# Altium schematic symbol library libreriaSch.SchLib: 392 symbols (part 1 of 2)
Pins are listed as number, name and electrical type; pins without a type are passive.

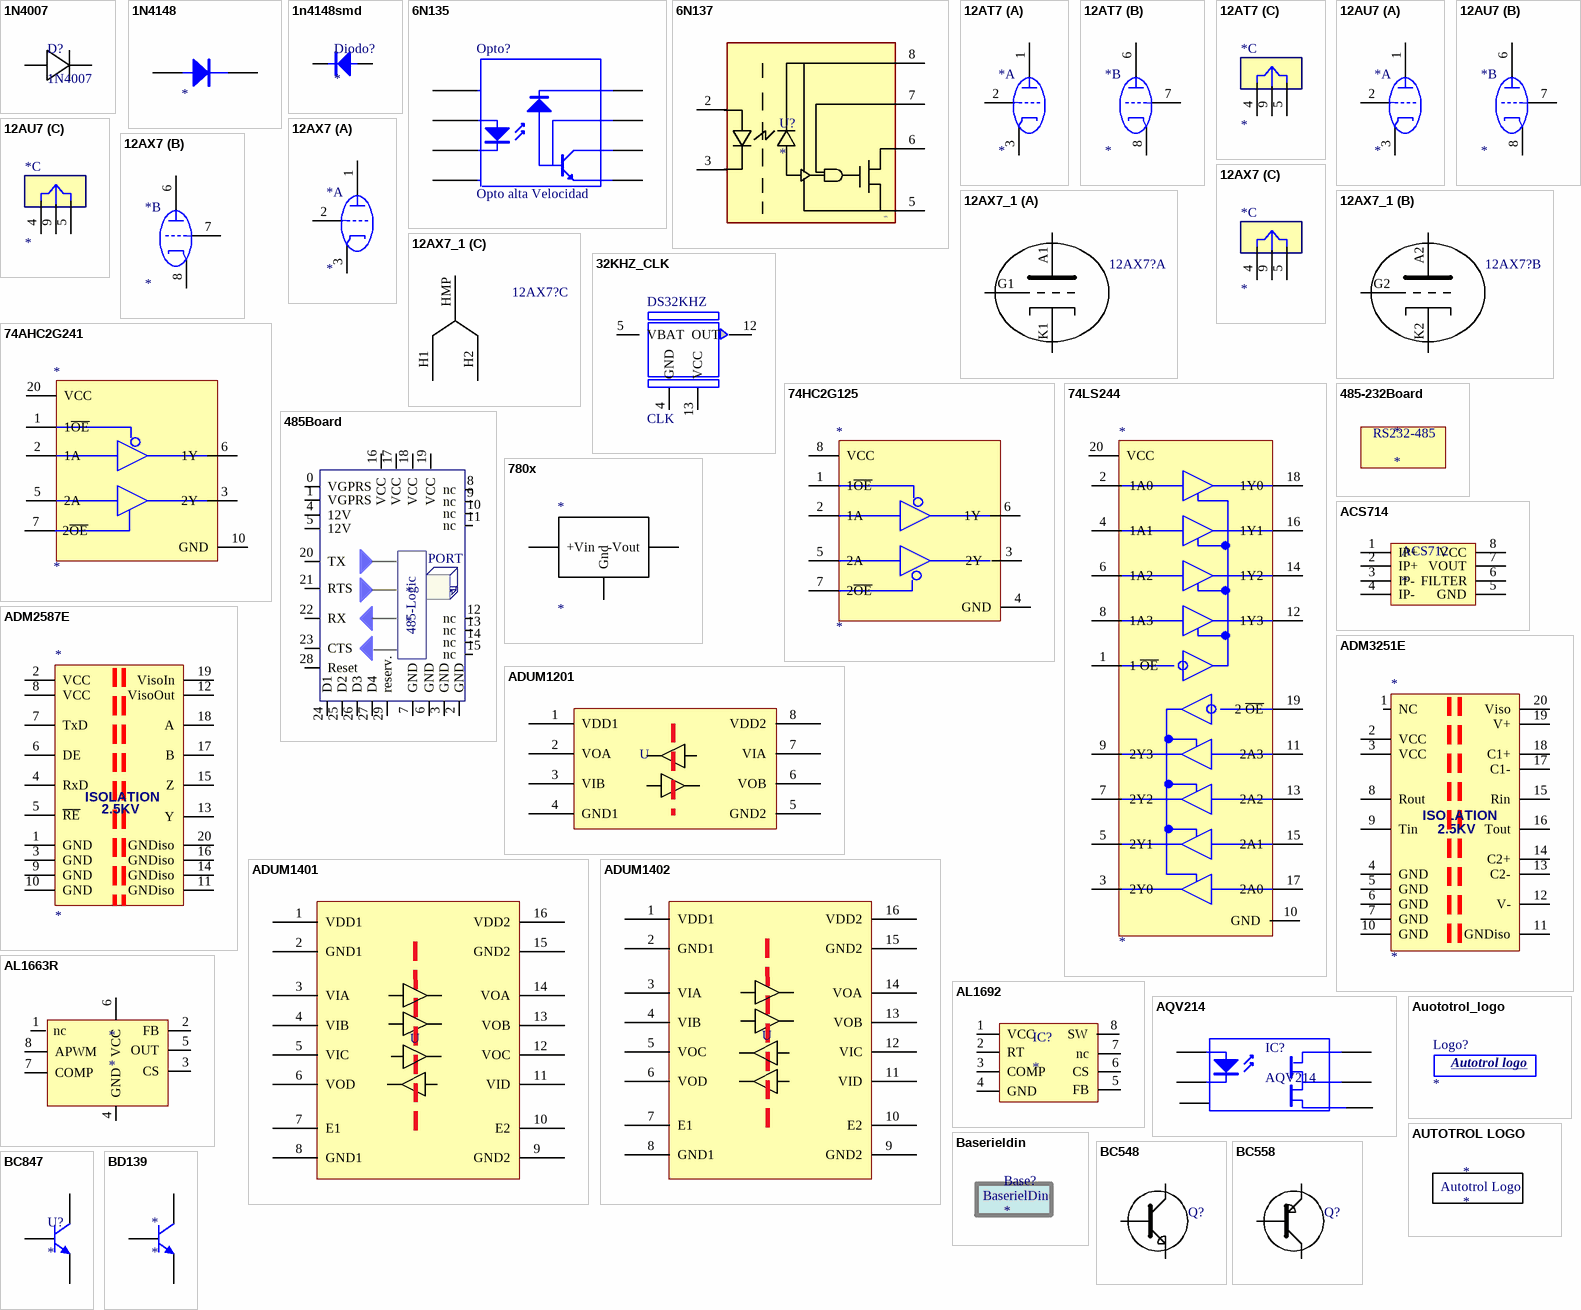
[diagram p0: symbols 1N4007 to BD139]

## 1N4007
designator D?
Diodo Rectificador 40V
footprint 1N4007SMD
pins: 1, 2

## 1N4148
designator ?
pins: 1 A, 2 K

## 1n4148smd
designator Diodo?
footprint smd_diode4148
pins: 1, 2

## 6N135
designator Opto?, comment Opto alta Velocidad
footprint DIP8
pins: 1, 2, 3, 4, 5 E, 6 C, 7 B, 8

## 6N137
designator U?
0.6pF Â±0.1pF 50V Ceramic Capacitor C0G, NP0 0201 (0603 Metric); MF: STMicroelectronics; MP: 6N 137; SnapEDA_Link: https://www.snapeda.com/parts/6N%20137/STMicroelectronics/view-part/?ref=snap; Package: DIP-8 Toshiba; Value: *; Check_prices: https://www.snapeda.com/parts/6N%20137/STMicroelectronics/view-part/?ref=eda
footprint DIP762W50P254L977H451Q8
pins: 2 A, 3 C, 5 GND (power), 6 VO, 7 VE, 8 VCC (power)
text: SFL

## 12AT7
designator *
part A pins: 1 PT1, 2 GT1, 3 KT1
part B pins: 6 PT2, 7 GT2, 8 KT2
part C pins: 4 H, 5 H, 9 HM

## 12AU7
designator *
part A pins: 1 PT1, 2 GT1, 3 KT1
part B pins: 6 PT2, 7 GT2, 8 KT2
part C pins: 4 H, 5 H, 9 HM

## 12AX7
designator *
part A pins: 1 PT1, 2 GT1, 3 KT1
part B pins: 6 PT2, 7 GT2, 8 KT2
part C pins: 4 H, 5 H, 9 HM

## 12AX7_1
designator 12AX7?  (value not drawn)
Válvula
footprint Noval_Tube; pin to pad A1>1 A2>6 G1>2 G2>7 H1>4 H2>5 HMP>9 K1>3 K2>8
part A pins: A1 A, G1 G, K1 K
part B pins: A2 A, G2 G, K2 K
part C pins: H1 (power), H2 (power), HMP
1 alternate drawing of the same symbol

## 32KHZ_CLK
designator DS32KHZ, comment CLK
footprint rtc_dip
pins: 4 GND, 5 VBAT, 12 OUT, 13 VCC

## 74AHC2G241
designator *
Dual Buffer/Line Drive; 3-State
footprint TSSOP8
pins: 1 1~{OE}, 2 1A, 3 2Y, 5 2A, 6 1Y, 7 2~{OE}, 10 GND (power), 20 VCC (power)

## 74HC2G125
designator *
Dual Buffer/Line Drive; 3-State
footprint TSSOP8
footprint SOIC8 (SMD)
pins: 1 1~{OE}, 2 1A, 3 2Y, 4 GND (power), 5 2A, 6 1Y, 7 2~{OE}, 8 VCC (power)

## 74LS244
designator *
Octal Buffer/Line Drive; 3-State
footprint SOIC20
pins: 1 1 ~{OE}, 2 1A0, 3 2Y0, 4 1A1, 5 2Y1, 6 1A2, 7 2Y2, 8 1A3, 9 2Y3, 10 GND (power), 11 2A3, 12 1Y3, 13 2A2, 14 1Y2, 15 2A1, 16 1Y1, 17 2A0, 18 1Y0, 19 2 ~{OE}, 20 VCC (power)

## 485-232Board
designator *
footprint 485BoardPCB
text: RS232-485

## 485Board
designator *
footprint RS-485Aislado
pins: 0 VGPRS (power), 1 VGPRS (power), 2 GND, 3 GND, 4 12V (power), 5 12V (power), 6 GND, 7 GND, 8 nc, 9 nc, 10 nc, 11 nc, 12 nc, 13 nc, 14 nc, 15 nc, 16 VCC (power), 17 VCC (power), 18 VCC (power), 19 VCC (power), 20 TX, 21 RTS, 22 RX, 23 CTS, 24 D1, 25 D2, 26 D3, 27 D4, 28 Reset, 29 reserv.
text: PORT; 485-Logic

## 780x
designator *
Regulador Lineal
footprint TO220
pins: 1 +Vin, 2 Gnd, 3 -Vout

## ACS714
designator ACS712
footprint SO8_L (Footprint not found)
pins: 1 IP+, 2 IP+, 3 IP-, 4 IP-, 5 GND, 6 FILTER, 7 VOUT, 8 VCC

## ADM2587E
designator *
RS485/422 Line Drive Isolation
footprint RW-20
pins: 1 GND, 2 VCC (power), 3 GND, 4 RxD, 5 ~{RE}, 6 DE, 7 TxD, 8 VCC (power), 9 GND, 10 GND, 11 GNDiso, 12 VisoOut (power), 13 Y, 14 GNDiso, 15 Z, 16 GNDiso, 17 B, 18 A, 19 VisoIn (power), 20 GNDiso (power)
text: ISOLATION; 2.5KV

## ADM3251E
designator *
RS232 Line Drive Isolation
footprint RW-20
pins: 1 NC, 2 VCC (power), 3 VCC (power), 4 GND, 5 GND, 6 GND, 7 GND, 8 Rout, 9 Tin, 10 GND, 11 GNDiso, 12 V-, 13 C2-, 14 C2+, 15 Rin, 16 Tout, 17 C1-, 18 C1+, 19 V+ (power), 20 Viso (power)
text: ISOLATION; 2.5KV

## ADUM1201
designator U  (value not drawn)
footprint SOIC8 (SMD)
pins: 1 VDD1, 2 VOA, 3 VIB, 4 GND1, 5 GND2, 6 VOB, 7 VIA, 8 VDD2

## ADUM1401
designator U  (value not drawn)
footprint SOIC16N
pins: 1 VDD1, 2 GND1, 3 VIA, 4 VIB, 5 VIC, 6 VOD, 7 E1, 8 GND1, 9 GND2, 10 E2, 11 VID, 12 VOC, 13 VOB, 14 VOA, 15 GND2, 16 VDD2

## ADUM1402
designator U  (value not drawn)
footprint SOIC16N
pins: 1 VDD1, 2 GND1, 3 VIA, 4 VIB, 5 VOC, 6 VOD, 7 E1, 8 GND1, 9 GND2, 10 E2, 11 VID, 12 VIC, 13 VOB, 14 VOA, 15 GND2, 16 VDD2

## AL1663R
designator *
footprint so8
pins: 1 nc, 2 FB, 3 CS, 4 GND, 5 OUT, 6 VCC, 7 COMP, 8 APWM

## AL1692
designator IC?
footprint so8
pins: 1 VCC, 2 RT, 3 COMP, 4 GND, 5 FB, 6 CS, 7 nc, 8 SW

## AQV214
designator IC?
footprint DIP6
pins: 1 A, 2 K, 3 nc, 4 D2, 5 S, 6 D1

## Auototrol_logo
designator Logo?
footprint Logo
text: Autotrol logo

## AUTOTROL LOGO
designator *
Logo de la empresa
footprint AUTOTROL LOGO
text: Autotrol Logo

## Baserieldin
designator Base?
footprint BaserielDin
text: BaserielDin

## BC548
designator Q?  (value not drawn)
Transistor NPN de baja potencia
footprint BC548
pins: B, C, E

## BC558
designator Q?  (value not drawn)
Transistor PNP de baja potencia
footprint BC548
pins: B, C, E

## BC847
designator U?
Bipolar (BJT) Transistor PNP 45 V 100 mA 200MHz 300 mW Surface Mount SOT-23-3; MF: Diodes Inc.; MP: BC857C-7-F; Package: SOT-23 Multicomp; Purchase-URL: https://pricing.snapeda.com/search/part/BC857C-7-F/?ref=eda; Value: *; SnapEDA_Link: https://www.snapeda.com/parts/BC857C-7-F/Diodes+Inc./view-part/?ref=snap; Price: None; Check_prices: https://www.snapeda.com/parts/BC857C-7-F/Diodes+Inc./view-part/?ref=eda; Availability: In Stock
footprint SOT95P240X110-3N
pins: 1 B, 2 E, 3 C

## BD139
designator *
pins: 1 E, 2 B, 3 C

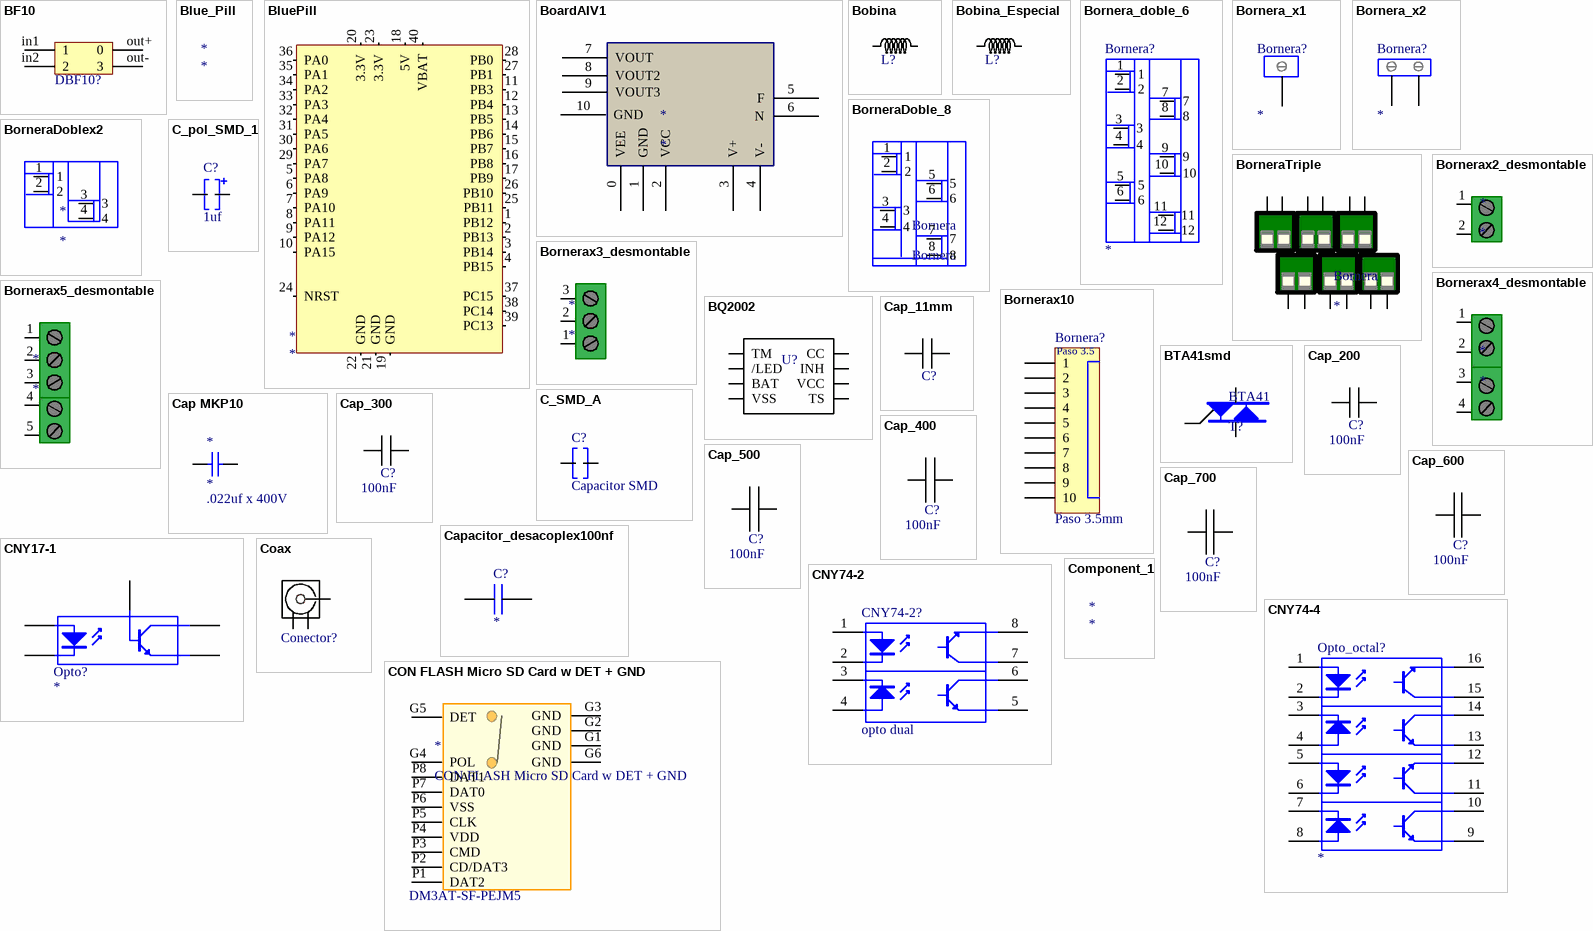
[diagram p1: symbols BF10 to CON FLASH Micro SD Card w DET + GND]

## BF10
designator DBF10?, comment Rectificador 1A  (value not drawn)
Rectificador 1A 200V
footprint BGA56x10; pin to pad in1>1 in2>2 out+>0 out->3
footprint Model Name (Footprint not found)
pins: in1 1, in2 2, out+ 0, out- 3
4 alternate drawings of the same symbol

## Blue_Pill
designator *

## BluePill
designator *
pins: 1 PB12, 2 PB13, 3 PB14, 4 PB15, 5 PA8, 6 PA9, 7 PA10, 8 PA11, 9 PA12, 10 PA15, 11 PB3, 12 PB4, 13 PB5, 14 PB6, 15 PB7, 16 PB8, 17 PB9, 18 5V, 19 GND, 20 3.3V, 21 GND, 22 GND, 23 3.3V, 24 NRST, 25 PB11, 26 PB10, 27 PB1, 28 PB0, 29 PA7, 30 PA6, 31 PA5, 32 PA4, 33 PA3, 34 PA2, 35 PA1, 36 PA0, 37 PC15, 38 PC14, 39 PC13, 40 VBAT

## BoardAIV1
designator *
footprint AIBoard
pins: 0 VEE, 1 GND, 2 VCC, 3 V+, 4 V-, 5 F, 6 N, 7 VOUT, 8 VOUT2, 9 VOUT3, 10 GND

## Bobina
designator L?  (value not drawn)
Inductor
footprint Bobina
pins: 1, 2

## Bobina_Especial
designator L?  (value not drawn)
Inductor Through-Hole de footprint cuadrado
footprint Transformador_2
pins: 1, 2a 2, 2b 2

## Bornera_doble_6
designator Bornera?
footprint Bornera_dBl_6
pins: 1, 2, 3, 4, 5, 6, 7, 8, 9, 10, 11, 12

## Bornera_x1
designator Bornera?
footprint Bornerax1-15A
pins: 0

## Bornera_x2
designator Bornera?
footprint Bornera_2x2
pins: 0, 1

## BorneraDoble_8
designator Bornera, comment Bornera
footprint Bornera 8_vias_doble
pins: 1, 2, 3, 4, 5, 6, 7, 8

## BorneraDoblex2
designator *
footprint BorneraFoble_4
pins: 1, 2, 3, 4

## BorneraTriple
designator Bornera
pins: 1, 2, 3, 4, 5, 6, 7, 8, 9, 10, 11, 12

## Bornerax2_desmontable
designator *
footprint Bornerax2_desmontable
pins: 1, 2

## Bornerax3_desmontable
designator *
footprint Bornerax3_desmontable
pins: 1, 2, 3

## Bornerax4_desmontable
designator *
footprint Bornerax4_desmontable
pins: 1, 2, 3, 4

## Bornerax5_desmontable
designator *
footprint BORNERAX5_DESMONTABLE
pins: 1, 2, 3, 4, 5

## Bornerax10
designator Bornera?, comment Paso 3.5mm
footprint Borneax10
pins: 1, 2, 3, 4, 5, 6, 7, 8, 9, 10
text: Paso 3.5

## BQ2002
designator U?  (value not drawn)
Cargador de pilas NIMH
footprint DIP8
pins: 1 TM, 2 /LED, 3 BAT, 4 VSS, 5 TS, 6 VCC, 7 INH, 8 CC

## BTA41smd
designator BTA41, comment T?
smd
footprint d2packv2
pins: A1, A2, G

## C_pol_SMD_1
designator C?, comment 1uf
footprint SMD_1uf
pins: 1, 2

## C_SMD_A
designator C?, comment Capacitor SMD
footprint Capacitor_SMD
pins: 1, 2

## Cap MKP10
designator *  value .022uf x 400V
footprint Cap MKP (.022uFx400V)
3D model SW3dPS-MKT(15_17x18x7) (PCB3D Model)
pins: 1, 2

## Cap_11mm
designator C?  (value not drawn)
Capacitor Electrolítico
footprint Cap_11mm
pins: 1, 2

## Cap_200
designator C?  value 100nF  (hidden comment: *)
Capacitor through-hole
footprint Cap_200
pins: 1, 2

## Cap_300
designator C?  value 100nF  (hidden comment: *)
Capacitor through-hole
footprint Cap_300
pins: 1, 2

## Cap_400
designator C?  value 100nF  (hidden comment: *)
Capacitor through-hole
footprint Cap_400
pins: 1, 2

## Cap_500
designator C?  value 100nF  (hidden comment: *)
Capacitor through-hole
footprint Cap_500
pins: 1, 2

## Cap_600
designator C?  value 100nF  (hidden comment: *)
Capacitor through-hole
footprint Cap_600
pins: 1, 2

## Cap_700
designator C?  value 100nF  (hidden comment: *)
Capacitor through-hole
footprint Cap_700
pins: 1, 2

## Capacitor_desacoplex100nf
designator C?
footprint Capacitor desacople
pins: 1, 2

## CNY17-1
designator Opto?
footprint DIP6
pins: 1 A, 2 K, 4 E, 5 C, 6 B

## CNY74-2
designator CNY74-2?, comment opto dual
footprint DIP-8
pins: 1, 2, 3, 4, 5, 6, 7, 8

## CNY74-4
designator Opto_octal?
footprint DIP16_opto
pins: 1, 2, 3, 4, 5, 6, 7, 8, 9, 10, 11, 12, 13, 14, 15, 16

## Coax
designator Conector?  (value not drawn)
Conector Cable coaxil
footprint Coax
pins: G1 Gnd, G2 Gnd, S Signal

## Component_1
designator *

## CON FLASH Micro SD Card w DET + GND
designator *  value DM3AT-SF-PEJM5
Manufacturer 1: Hirose Electric Co Ltd; Voltage: 125VAC; Type: Flash Card; Supplier Part Number: HR1964CT-ND; Supplier: DigiKey; Manufacturer Part Number 1: DM3AT-SF-PEJM5; Rev: A
footprint micro_sd
pins: G1 GND, G2 GND, G3 GND, G4 POL, G5 DET, G6 GND, P1 DAT2, P2 CD/DAT3, P3 CMD, P4 VDD, P5 CLK, P6 VSS, P7 DAT0, P8 DAT1

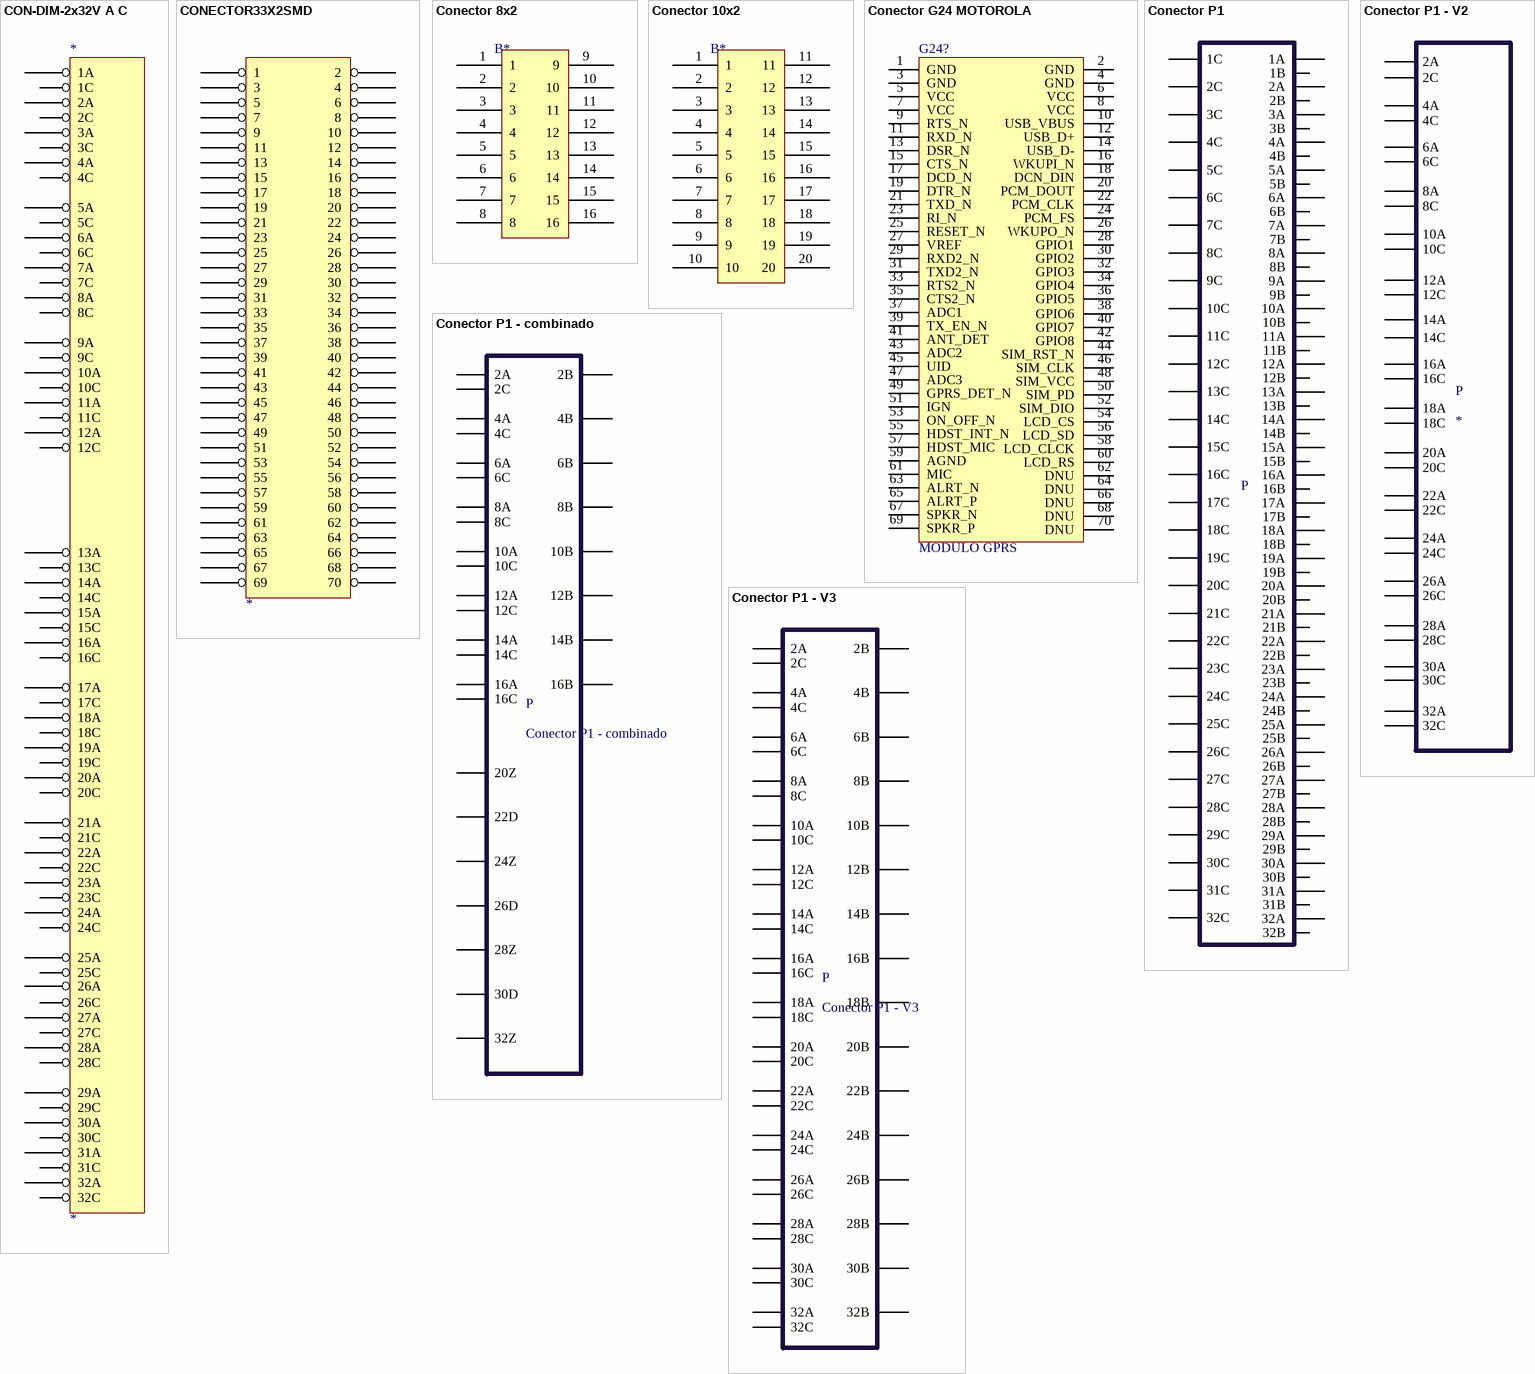
[diagram p2: symbols CON-DIM-2x32V A C to Conector P1 - V3]

## CON-DIM-2x32V A C
designator *
pins: 1A, 1C, 2A, 2C, 3A, 3C, 4A, 4C, 5A, 5C, 6A, 6C, 7A, 7C, 8A, 8C, 9A, 9C, 10A, 10C, 11A, 11C, 12A, 12C, 13A, 13C, 14A, 14C, 15A, 15C, 16A, 16C, 17A, 17C, 18A, 18C, 19A, 19C, 20A, 20C, 21A, 21C, 22A, 22C, 23A, 23C, 24A, 24C, 25A, 25C, 26A, 26C, 27A, 27C, 28A, 28C, 29A, 29C, 30A, 30C, 31A, 31C, 32A, 32C

## CONECTOR33X2SMD
designator ?
pins: 1, 2, 3, 4, 5, 6, 7, 8, 9, 10, 11, 12, 13, 14, 15, 16, 17, 18, 19, 20, 21, 22, 23, 24, 25, 26, 27, 28, 29, 30, 31, 32, 33, 34, 35, 36, 37, 38, 39, 40, 41, 42, 43, 44, 45, 46, 47, 48, 49, 50, 51, 52, 53, 54, 55, 56, 57, 58, 59, 60, 61, 62, 63, 64, 65, 66, 67, 68, 69, 70

## Conector 8x2
designator B*  (value not drawn)
Conector vertical 8 pines en 2 filas
footprint Conector_Rectox16_con_traba
pins: 1, 2, 3, 4, 5, 6, 7, 8, 9, 10, 11, 12, 13, 14, 15, 16

## Conector 10x2
designator B*  (value not drawn)
Conector vertical 20 pines en 2 filas
footprint ConectorHx20 (2x5)
pins: 1, 2, 3, 4, 5, 6, 7, 8, 9, 10, 11, 12, 13, 14, 15, 16, 17, 18, 19, 20

## Conector G24 MOTOROLA
designator G24?, comment MODULO GPRS
footprint G_24_Molex_0529910708
pins: 1 GND, 2 GND, 3 GND, 4 GND, 5 VCC, 6 VCC, 7 VCC, 8 VCC, 9 RTS_N, 10 USB_VBUS, 11 RXD_N, 12 USB_D+, 13 DSR_N, 14 USB_D-, 15 CTS_N, 16 WKUPI_N, 17 DCD_N, 18 DCN_DIN, 19 DTR_N, 20 PCM_DOUT, 21 TXD_N, 22 PCM_CLK, 23 RI_N, 24 PCM_FS, 25 RESET_N, 26 WKUPO_N, 27 VREF, 28 GPIO1, 29 RXD2_N, 30 GPIO2, 31 TXD2_N, 32 GPIO3, 33 RTS2_N, 34 GPIO4, 35 CTS2_N, 36 GPIO5, 37 ADC1, 38 GPIO6, 39 TX_EN_N, 40 GPIO7, 41 ANT_DET, 42 GPIO8, 43 ADC2, 44 SIM_RST_N, 45 UID, 46 SIM_CLK, 47 ADC3, 48 SIM_VCC, 49 GPRS_DET_N, 50 SIM_PD, 51 IGN, 52 SIM_DIO, 53 ON_OFF_N, 54 LCD_CS, 55 HDST_INT_N, 56 LCD_SD, 57 HDST_MIC, 58 LCD_CLCK, 59 AGND, 60 LCD_RS, 61 MIC, 62 DNU, 63 ALRT_N, 64 DNU, 65 ALRT_P, 66 DNU, 67 SPKR_N, 68 DNU, 69 SPKR_P, 70 DNU

## Conector P1
designator P, comment DIN96RA_MALE  (value not drawn)
footprint P1_footprint
pins: 1A, 1B, 1C, 2A, 2B, 2C, 3A, 3B, 3C, 4A, 4B, 4C, 5A, 5B, 5C, 6A, 6B, 6C, 7A, 7B, 7C, 8A, 8B, 8C, 9A, 9B, 9C, 10A, 10B, 10C, 11A, 11B, 11C, 12A, 12B, 12C, 13A, 13B, 13C, 14A, 14B, 14C, 15A, 15B, 15C, 16A, 16B, 16C, 17A, 17B, 17C, 18A, 18B, 18C, 19A, 19B, 19C, 20A, 20B, 20C, 21A, 21B, 21C, 22A, 22B, 22C, 23A, 23B, 23C, 24A, 24B, 24C, 25A, 25B, 25C, 26A, 26B, 26C, 27A, 27B, 27C, 28A, 28B, 28C, 29A, 29B, 29C, 30A, 30B, 30C, 31A, 31B, 31C, 32A, 32B, 32C

## Conector P1 - combinado
designator P
footprint ConectorBackPlane3
footprint ConectorBackPlane-3
pins: 2A, 2B, 2C, 4A, 4B, 4C, 6A, 6B, 6C, 8A, 8B, 8C, 10A, 10B, 10C, 12A, 12B, 12C, 14A, 14B, 14C, 16A, 16B, 16C, 20Z, 22D, 24Z, 26D, 28Z, 30D, 32Z

## Conector P1 - V2
designator P
footprint ConectorBackPlane-2
pins: 2A, 2C, 4A, 4C, 6A, 6C, 8A, 8C, 10A, 10C, 12A, 12C, 14A, 14C, 16A, 16C, 18A, 18C, 20A, 20C, 22A, 22C, 24A, 24C, 26A, 26C, 28A, 28C, 30A, 30C, 32A, 32C

## Conector P1 - V3
designator P
footprint ConectorBackPlane3
footprint ConectorBackPlane-3
pins: 2A, 2B, 2C, 4A, 4B, 4C, 6A, 6B, 6C, 8A, 8B, 8C, 10A, 10B, 10C, 12A, 12B, 12C, 14A, 14B, 14C, 16A, 16B, 16C, 18A, 18B, 18C, 20A, 20B, 20C, 22A, 22B, 22C, 24A, 24B, 24C, 26A, 26B, 26C, 28A, 28B, 28C, 30A, 30B, 30C, 32A, 32B, 32C

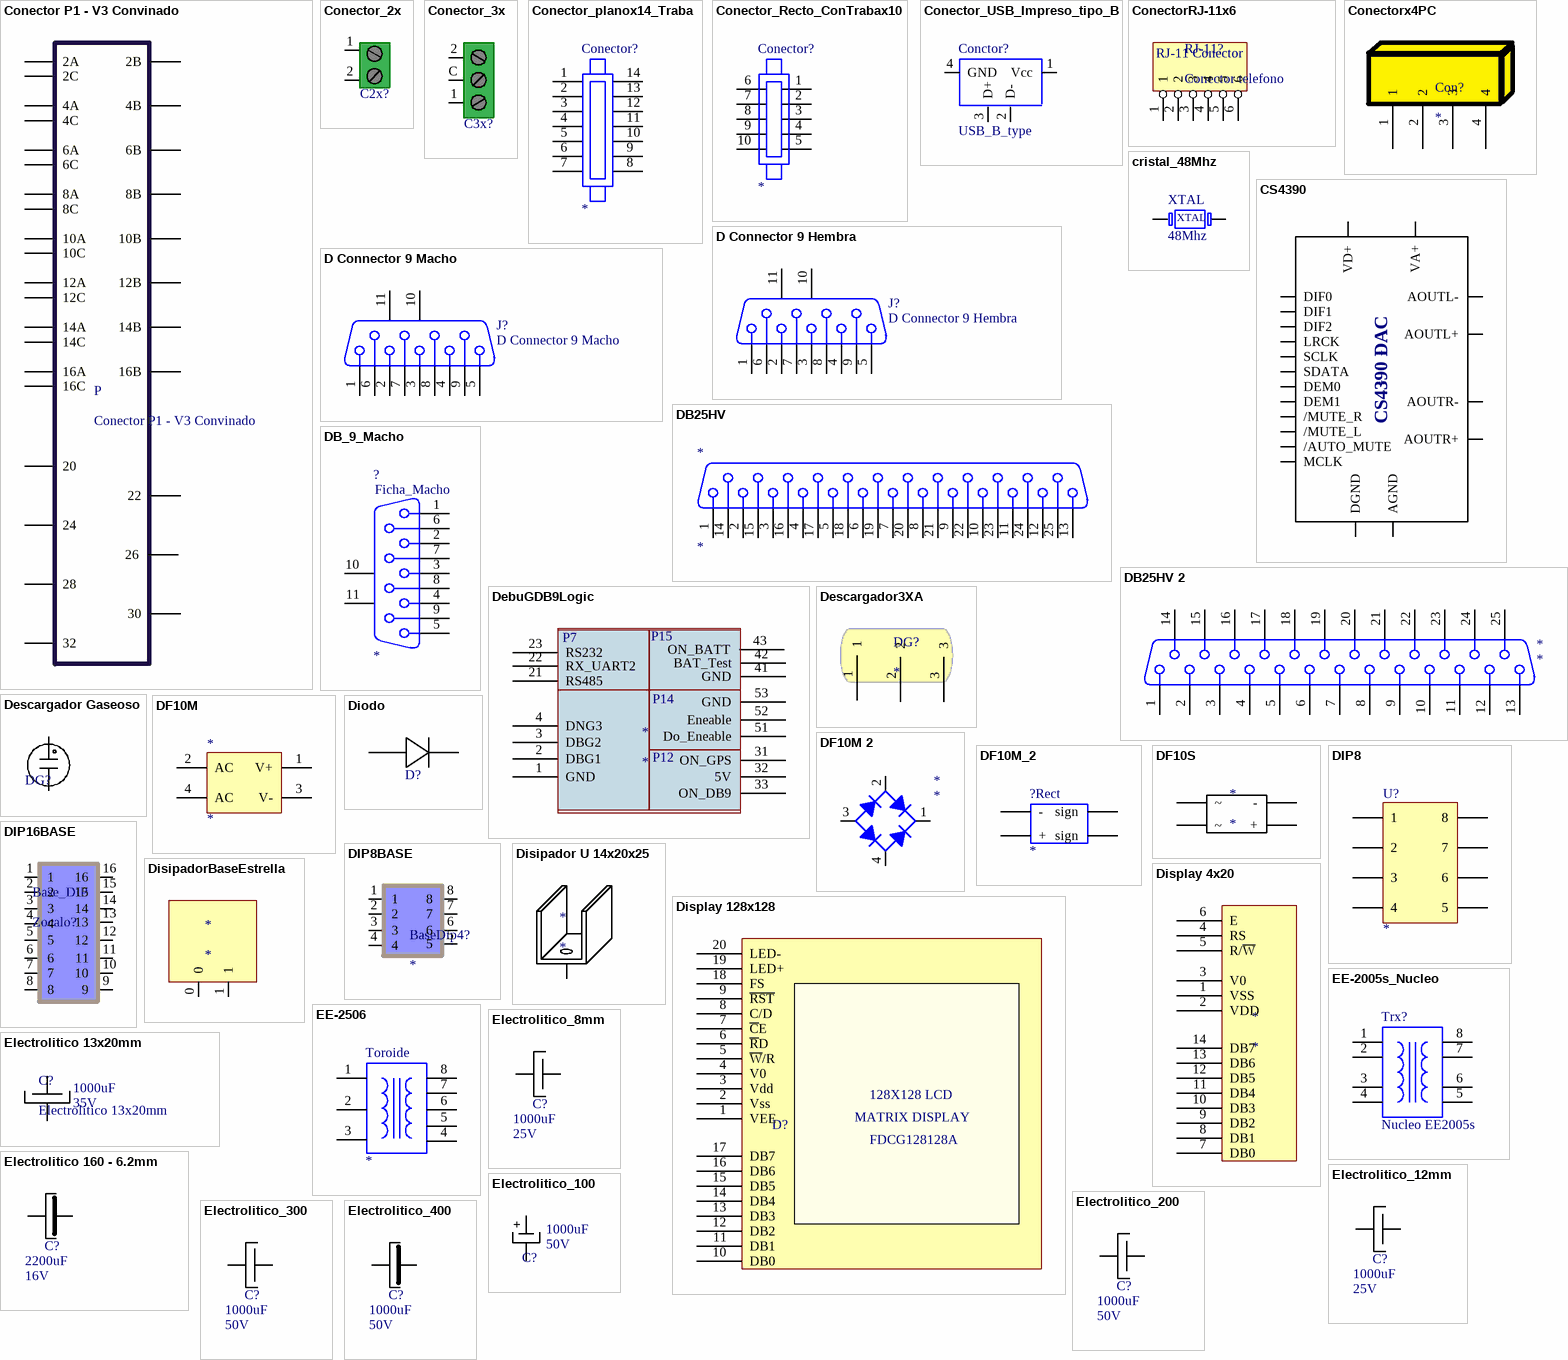
[diagram p3: symbols Conector P1 - V3 Convinado to Electrolitico_400]

## Conector P1 - V3 Convinado
designator P
footprint ConectorBackPlane-3-CONVINADO
pins: 2A, 2B, 2C, 4A, 4B, 4C, 6A, 6B, 6C, 8A, 8B, 8C, 10A, 10B, 10C, 12A, 12B, 12C, 14A, 14B, 14C, 16A, 16B, 16C, 20, 22, 24, 26, 28, 30, 32

## Conector_2x
designator C2x?  (value not drawn)
Bornera de 2 contactos
footprint Conector_2x
pins: 1, 2

## Conector_3x
designator C3x?  (value not drawn)
Bornera de 2 contactos
footprint Conector_3x
pins: 1, 2, C

## Conector_planox14_Traba
designator Conector?
footprint Conector_Rectox14
pins: 1, 2, 3, 4, 5, 6, 7, 8, 9, 10, 11, 12, 13, 14

## Conector_Recto_ConTrabax10
designator Conector?
footprint Conector_Rectox10_Eyector
pins: 1, 2, 3, 4, 5, 6, 7, 8, 9, 10

## Conector_USB_Impreso_tipo_B
designator Conctor?, comment USB_B_type
footprint USB5075BR
pins: 1 Vcc, 2 D-, 3 D+, 4 GND

## ConectorRJ-11x6
designator RJ-11?, comment Conector telefono
footprint RJ11
pins: 1, 2, 3, 4, 5, 6
text: RJ-11 Conector

## Conectorx4PC
designator Con?
footprint 4pinconnectorpc
pins: 1, 2, 3, 4

## cristal_48Mhz
designator XTAL, comment 48Mhz
footprint cristal_smd
pins: 1, 2

## CS4390
designator *
Digital to Analog Converter
pins: 1 DEM0, 2 DEM1, 3 VA+, 4 AGND, 5 DGND, 6 VD+, 7 LRCK, 8 MCLK, 9 SCLK, 10 SDATA, 11 /AUTO_MUTE, 12 DIF2, 13 AOUTR-, 14 AOUTR+, 15 /MUTE_R, 16 /MUTE_L, 17 AOUTL-, 18 AOUTL+, 19 DIF1, 20 DIF0
text: CS4390 DAC

## D Connector 9 Hembra
designator J?
Receptacle Assembly, 9 Position, Right Angle; PackageDocument: O; Positions: 9; Published: 15-Jun-2001; LatestRevisionDate: 17-Jul-2002; LatestRevisionNote: Re-released for DXP Platform.; DatasheetDocument: 1-Sep-1999; PackageReference: 788750; Publisher: Altium Limited; Orientation: Right Angle; Gender: Receptacle
footprint DSUB1.385-2H9Hembra (Connector; D Subminiature; 9 Position; Right Angle; Pitch 1.385 mm)
pins: 1, 2, 3, 4, 5, 6, 7, 8, 9, 10 MH1, 11 MH2

## D Connector 9 Macho
designator J?
Receptacle Assembly, 9 Position, Right Angle; PackageDocument: O; Positions: 9; Published: 15-Jun-2001; LatestRevisionDate: 17-Jul-2002; LatestRevisionNote: Re-released for DXP Platform.; DatasheetDocument: 1-Sep-1999; PackageReference: 788750; Publisher: Altium Limited; Orientation: Right Angle; Gender: Receptacle
footprint DSUB1.385-2H9Macho (Connector; D Subminiature; 9 Position; Right Angle; Pitch 1.385 mm)
pins: 1, 2, 3, 4, 5, 6, 7, 8, 9, 10 MH1, 11 MH2

## DB25HV
designator *
footprint DB25HV (DB25HVERTICAL)
pins: 1, 2, 3, 4, 5, 6, 7, 8, 9, 10, 11, 12, 13, 14, 15, 16, 17, 18, 19, 20, 21, 22, 23, 24, 25

## DB25HV 2
designator *
footprint DB25HV (DB25HVERTICAL)
pins: 1, 2, 3, 4, 5, 6, 7, 8, 9, 10, 11, 12, 13, 14, 15, 16, 17, 18, 19, 20, 21, 22, 23, 24, 25

## DB_9_Macho
designator ?
footprint DB_9_foot_print_macho
pins: 1, 2, 3, 4, 5, 6, 7, 8, 9, 10 MH1, 11 MH2
text: Ficha_Macho

## DebuGDB9Logic
designator *
footprint smallPinLogic
pins: 1 GND, 2 DBG1, 3 DBG2, 4 DNG3, 21 RS485, 22 RX_UART2, 23 RS232, 31 ON_GPS, 32 5V, 33 ON_DB9, 41 GND, 42 BAT_Test, 43 ON_BATT, 51 Do_Eneable, 52 Eneable, 53 GND
text: P7; P15; P14; P12

## Descargador3XA
designator DG?
footprint Descargadorx3A
pins: 1, 2, 3

## Descargador Gaseoso
designator DG?  (value not drawn)
Descargador Gaseoso (Gas discharge tube)
footprint Descargador Gaseoso Radial
pins: 1, 2

## DF10M
designator *
Bridge Rectifiers
footprint DF10M
3D model SW3dPS-DIP-4_300mil_Black (PCB3D Model)
pins: 1 V+, 2 AC, 3 V-, 4 AC

## DF10M 2
designator *
footprint DF10M
pins: 1 K, 2 C, 3 A, 4 C

## DF10M_2
designator ?Rect
footprint DIP_Rec
pins: 1 +, 2 -, 3 sign, 4 sign

## DF10S
designator *
Rectificador de baja potencia en montaje superficial
footprint DF10S
pins: +, -, AC1 ~, AC2 ~

## Diodo
designator D?  (value not drawn)
Diodo
footprint Diodo
pins: A, K

## DIP8
designator U?
pins: 1, 2, 3, 4, 5, 6, 7, 8

## DIP8BASE
designator BaseDip4?
footprint DIP4_Zocalo
pins: 1, 2, 3, 4, 5, 6, 7, 8

## DIP16BASE
designator Base_DIP, comment Zocalo?
footprint DIP16_Zocalo
pins: 1, 2, 3, 4, 5, 6, 7, 8, 9, 10, 11, 12, 13, 14, 15, 16

## Disipador U 14x20x25
designator *
Disipador en forma de U
footprint Disipador U 14x20x25
pins: 0

## DisipadorBaseEstrella
designator *
footprint DisipadorEstrella
pins: 0, 1

## Display 4x20
designator *
Display alfanumérico de 4 lineas y 20 caracteres
footprint Display LCD Grafico 128x128
pins: 1 VSS, 2 VDD, 3 V0, 4 RS, 5 R/~{W}, 6 E, 7 DB0, 8 DB1, 9 DB2, 10 DB3, 11 DB4, 12 DB5, 13 DB6, 14 DB7

## Display 128x128
designator D?  (value not drawn)
Display gráfico LCD monocromático de 128x128 px
footprint Display LCD Grafico 128x128
pins: 1 VEE, 2 Vss, 3 Vdd, 4 V0, 5 ~{W}/R, 6 ~{R}D, 7 ~{C}E, 8 C/D, 9 ~{RST}, 10 DB0, 11 DB1, 12 DB2, 13 DB3, 14 DB4, 15 DB5, 16 DB6, 17 DB7, 18 FS, 19 LED+, 20 LED-
text: 128X128 LCD; MATRIX DISPLAY; FDCG128128A

## EE-2005s_Nucleo
designator Trx?, comment Nucleo EE2005s
footprint Forma_EE-2005s
pins: 1, 2, 3, 4, 5, 6, 7, 8

## EE-2506
designator Toroide
toroide 25mm
footprint toroide_25cm
pins: 1, 2, 3, 4, 5, 6, 7, 8

## Electrolitico 13x20mm
designator C?  value 1000uF  Voltage: 35V
Capacitor Electrolítico
footprint Electrolitico_13x20
pins: C+ +, C- -

## Electrolitico 160 - 6.2mm
designator C?  value 2200uF  Voltage: 16V  (hidden comment: *)
Capacitor Electrolítico
footprint Electrolitico_160 - 6.2mm
pins: 1 +, 2

## Electrolitico_8mm
designator C?  value 1000uF  Voltage: 25V
Capacitor Electrolítico
footprint Electrolitico_8mm
pins: C+ +, C- -

## Electrolitico_12mm
designator C?  value 1000uF  Voltage: 25V  (hidden comment: *)
Capacitor Electrolítico
footprint Electrolitico_12mm
pins: C+ +, C- -

## Electrolitico_100
designator C?  value 1000uF  Voltage: 50V  (hidden comment: *)
Capacitor Electrolítico
footprint Electrolitico_100
pins: C+ +, C- -

## Electrolitico_200
designator C?  value 1000uF  Voltage: 50V  (hidden comment: *)
Capacitor Electrolítico
footprint Electrolitico_200
pins: C+ +, C- -

## Electrolitico_300
designator C?  value 1000uF  Voltage: 50V  (hidden comment: *)
Capacitor Electrolítico
footprint Electrolitico_300
pins: C+ +, C- -

## Electrolitico_400
designator C?  value 1000uF  Voltage: 50V  (hidden comment: *)
Capacitor Electrolítico
footprint Electrolitico_400
pins: C+ +, C- -

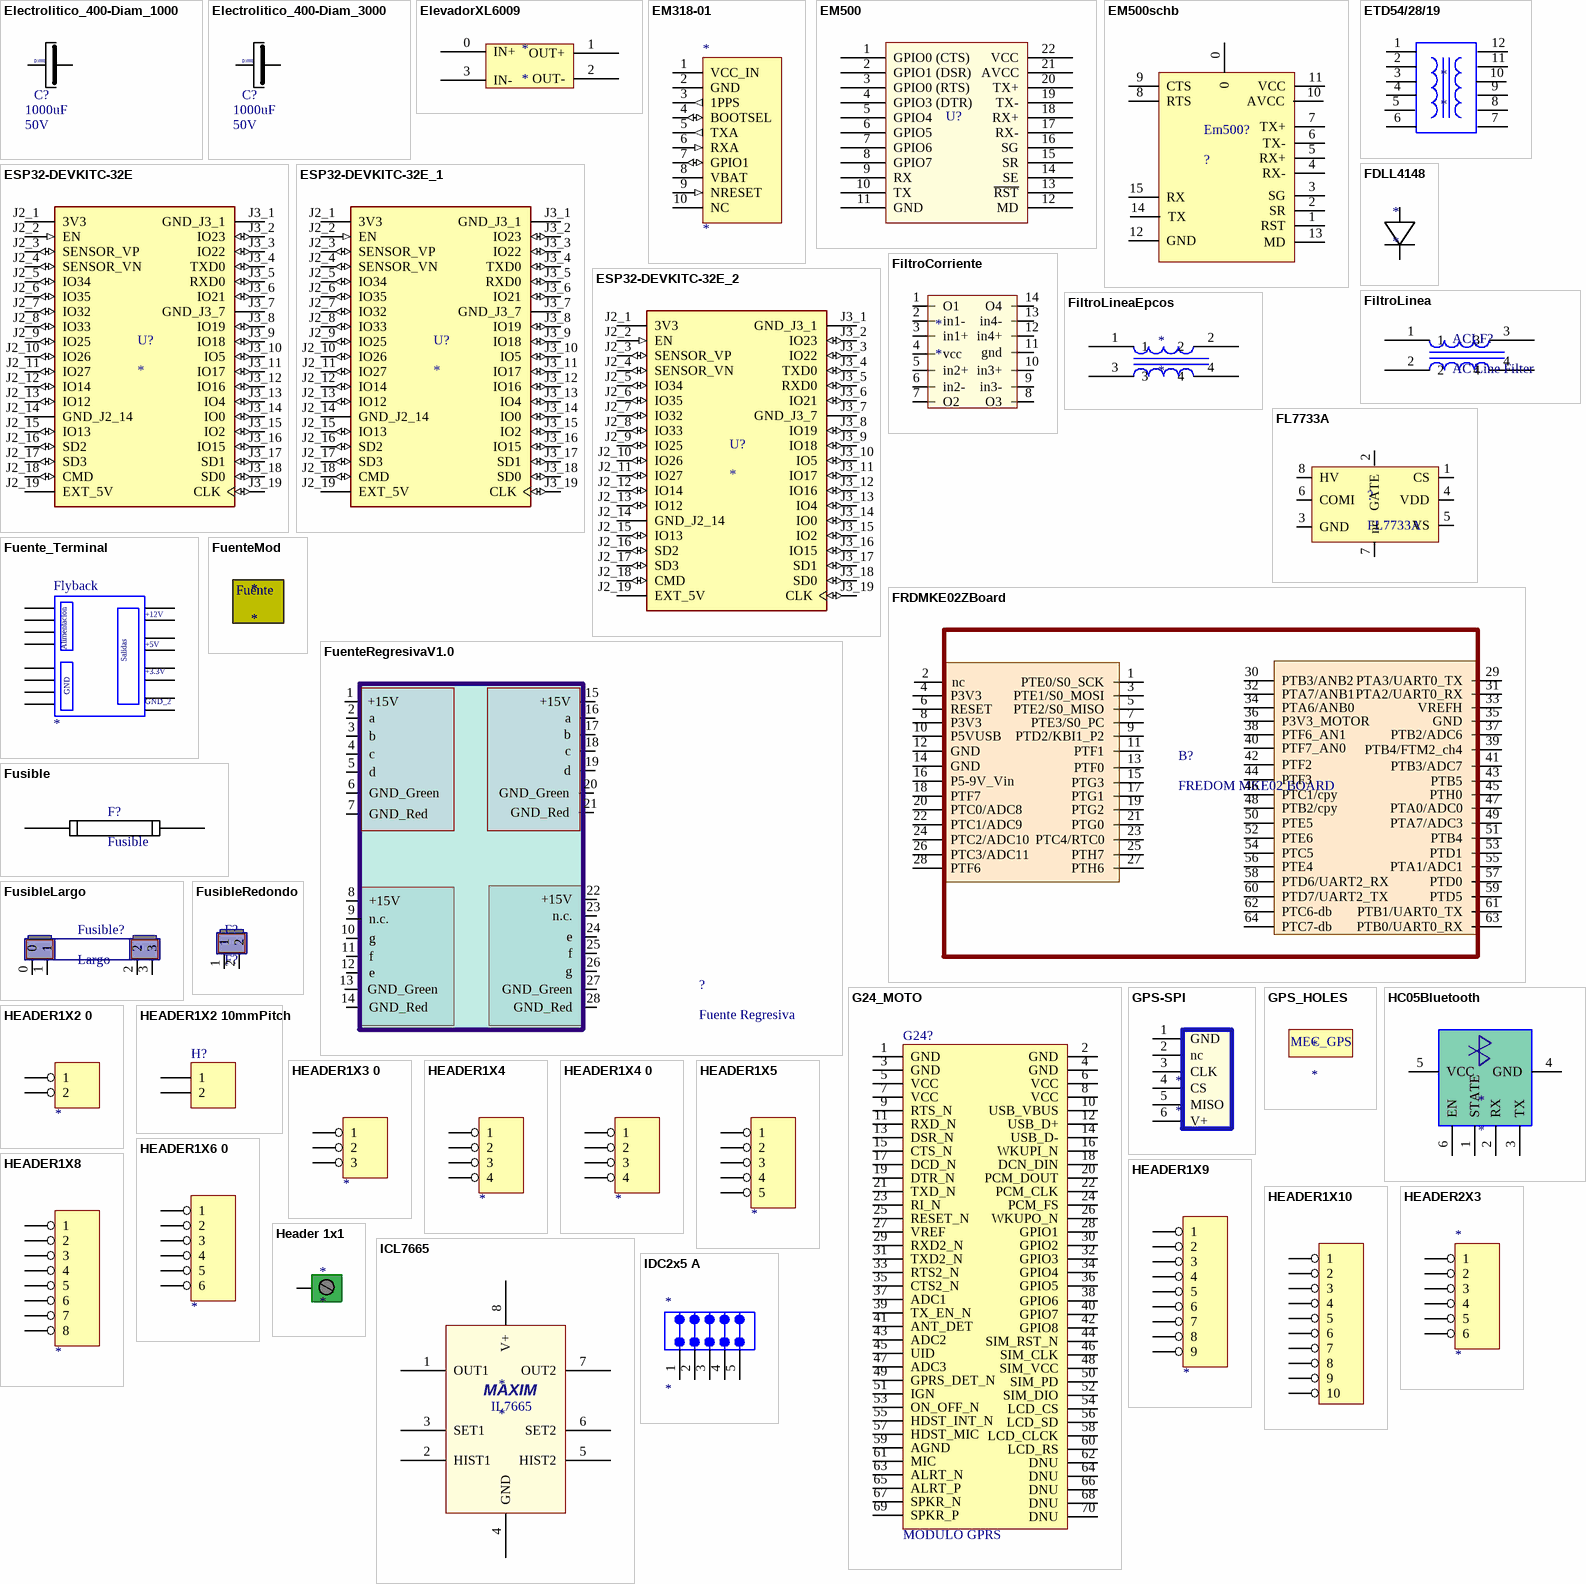
[diagram p4: symbols Electrolitico_400-Diam_1000 to IDC2x5 A]

## Electrolitico_400-Diam_1000
designator C?  value 1000uF  Voltage: 50V  (hidden comment: *)
Capacitor Electrolítico
footprint Electrolitico_400-Dima_1000
simulation model Model Name (Model Description)
3D model Model Name (Model Description)
3D model Model Name (Model Description)
pins: C+ +, C- -
text: D1000

## Electrolitico_400-Diam_3000
designator C?  value 1000uF  Voltage: 50V  (hidden comment: *)
Capacitor Electrolítico
footprint Electrolitico_400-Dima_3000
simulation model Model Name (Model Description)
3D model Model Name (Model Description)
3D model Model Name (Model Description)
pins: C+ +, C- -
text: D1000

## ElevadorXL6009
designator *
footprint EleXL6009
pins: 0 IN+, 1 OUT+, 2 OUT-, 3 IN-

## EM318-01
designator *
footprint EM318-01 (Modulo GPS+Antena)
footprint Conector P1.25 (1.25 Wire to Board Conn. Recto)
pins: 1 VCC_IN (power), 2 GND, 3 1PPS (out), 4 BOOTSEL (io), 5 TXA (out), 6 RXA (in), 7 GPIO1 (io), 8 VBAT (power), 9 NRESET (in), 10 NC

## EM500
designator U?  (value not drawn)
Convesor Serie-Ethernet
footprint EM500
footprint EM500-SMALL
pins: 1 GPIO0 (CTS), 2 GPIO1 (DSR), 3 GPIO0 (RTS), 4 GPIO3 (DTR), 5 GPIO4, 6 GPIO5, 7 GPIO6, 8 GPIO7, 9 RX, 10 TX, 11 GND, 12 MD, 13 ~{RST}, 14 SE, 15 SR, 16 SG, 17 RX-, 18 RX+, 19 TX-, 20 TX+, 21 AVCC, 22 VCC

## EM500schb
designator Em500?, comment ?
footprint EM500Exp
pins: 0, 1 RST, 2 SR, 3 SG, 4 RX-, 5 RX+, 6 TX-, 7 TX+, 8 RTS, 9 CTS, 10 AVCC, 11 VCC, 12 GND, 13 MD, 14 TX, 15 RX

## ESP32-DEVKITC-32E
designator U?
The ESP32-DEVKITC-32E transceiver evaluation board from Espressif Systems is a powerful development tool for wireless communication technologies. It supports 802.11 b/g/n Wi-Fi and BluetoothÂ® Smart Ready 4.x (BLE) dual-mode at 2.4GHz, making it ideal for; SnapEDA_Link: https://www.snapeda.com/parts/ESP32-DEVKITC-32E/Espressif+Systems/view-part/?ref=snap; Package: None; Value: *; MF: Espressif Systems; MP: ESP32-DEVKITC-32E; Check_prices: https://www.snapeda.com/parts/ESP32-DEVKITC-32E/Espressif+Systems/view-part/?ref=eda
footprint MODULE_ESP32-DEVKITC-32E
pins: J2_1 3V3 (power), J2_2 EN (in), J2_3 SENSOR_VP (io), J2_4 SENSOR_VN (io), J2_5 IO34 (io), J2_6 IO35 (io), J2_7 IO32 (io), J2_8 IO33 (io), J2_9 IO25 (io), J2_10 IO26 (io), J2_11 IO27 (io), J2_12 IO14 (io), J2_13 IO12 (io), J2_14 GND_J2_14 (power), J2_15 IO13 (io), J2_16 SD2 (io), J2_17 SD3 (io), J2_18 CMD (io), J2_19 EXT_5V (power), J3_1 GND_J3_1 (power), J3_2 IO23 (io), J3_3 IO22 (io), J3_4 TXD0 (io), J3_5 RXD0 (io), J3_6 IO21 (io), J3_7 GND_J3_7 (power), J3_8 IO19 (io), J3_9 IO18 (io), J3_10 IO5 (io), J3_11 IO17 (io), J3_12 IO16 (io), J3_13 IO4 (io), J3_14 IO0 (io), J3_15 IO2 (io), J3_16 IO15 (io), J3_17 SD1 (io), J3_18 SD0 (io), J3_19 CLK (io)

## ESP32-DEVKITC-32E_1
designator U?
The ESP32-DEVKITC-32E transceiver evaluation board from Espressif Systems is a powerful development tool for wireless communication technologies. It supports 802.11 b/g/n Wi-Fi and BluetoothÂ® Smart Ready 4.x (BLE) dual-mode at 2.4GHz, making it ideal for; SnapEDA_Link: https://www.snapeda.com/parts/ESP32-DEVKITC-32E/Espressif+Systems/view-part/?ref=snap; Package: None; Value: *; MF: Espressif Systems; MP: ESP32-DEVKITC-32E; Check_prices: https://www.snapeda.com/parts/ESP32-DEVKITC-32E/Espressif+Systems/view-part/?ref=eda
footprint MODULE_ESP32-DEVKITC-32E
pins: J2_1 3V3 (power), J2_2 EN (in), J2_3 SENSOR_VP (io), J2_4 SENSOR_VN (io), J2_5 IO34 (io), J2_6 IO35 (io), J2_7 IO32 (io), J2_8 IO33 (io), J2_9 IO25 (io), J2_10 IO26 (io), J2_11 IO27 (io), J2_12 IO14 (io), J2_13 IO12 (io), J2_14 GND_J2_14 (power), J2_15 IO13 (io), J2_16 SD2 (io), J2_17 SD3 (io), J2_18 CMD (io), J2_19 EXT_5V (power), J3_1 GND_J3_1 (power), J3_2 IO23 (io), J3_3 IO22 (io), J3_4 TXD0 (io), J3_5 RXD0 (io), J3_6 IO21 (io), J3_7 GND_J3_7 (power), J3_8 IO19 (io), J3_9 IO18 (io), J3_10 IO5 (io), J3_11 IO17 (io), J3_12 IO16 (io), J3_13 IO4 (io), J3_14 IO0 (io), J3_15 IO2 (io), J3_16 IO15 (io), J3_17 SD1 (io), J3_18 SD0 (io), J3_19 CLK (io)

## ESP32-DEVKITC-32E_2
designator U?
The ESP32-DEVKITC-32E transceiver evaluation board from Espressif Systems is a powerful development tool for wireless communication technologies. It supports 802.11 b/g/n Wi-Fi and BluetoothÂ® Smart Ready 4.x (BLE) dual-mode at 2.4GHz, making it ideal for; SnapEDA_Link: https://www.snapeda.com/parts/ESP32-DEVKITC-32E/Espressif+Systems/view-part/?ref=snap; Package: None; Value: *; MF: Espressif Systems; MP: ESP32-DEVKITC-32E; Check_prices: https://www.snapeda.com/parts/ESP32-DEVKITC-32E/Espressif+Systems/view-part/?ref=eda
footprint MODULE_ESP32-DEVKITC-32E
pins: J2_1 3V3 (power), J2_2 EN (in), J2_3 SENSOR_VP (io), J2_4 SENSOR_VN (io), J2_5 IO34 (io), J2_6 IO35 (io), J2_7 IO32 (io), J2_8 IO33 (io), J2_9 IO25 (io), J2_10 IO26 (io), J2_11 IO27 (io), J2_12 IO14 (io), J2_13 IO12 (io), J2_14 GND_J2_14 (power), J2_15 IO13 (io), J2_16 SD2 (io), J2_17 SD3 (io), J2_18 CMD (io), J2_19 EXT_5V (power), J3_1 GND_J3_1 (power), J3_2 IO23 (io), J3_3 IO22 (io), J3_4 TXD0 (io), J3_5 RXD0 (io), J3_6 IO21 (io), J3_7 GND_J3_7 (power), J3_8 IO19 (io), J3_9 IO18 (io), J3_10 IO5 (io), J3_11 IO17 (io), J3_12 IO16 (io), J3_13 IO4 (io), J3_14 IO0 (io), J3_15 IO2 (io), J3_16 IO15 (io), J3_17 SD1 (io), J3_18 SD0 (io), J3_19 CLK (io)

## ETD54/28/19
designator *
footprint Trx-12vias
pins: 1, 2, 3, 4, 5, 6, 7, 8, 9, 10, 11, 12

## FDLL4148
designator *
Diodo
footprint FDLL4148 (Chip Resistor; Body 3.2 x 1.6 mm (LxW typ))
pins: 0, 1

## FiltroCorriente
designator *
footprint Placa_corriente_chota
pins: 1 O1, 2 in1-, 3 in1+, 4 vcc, 5 in2+, 6 in2-, 7 O2, 8 O3, 9 in3-, 10 in3+, 11 gnd, 12 in4+, 13 in4-, 14 O4

## FiltroLinea
designator ACLF?, comment AC Line Filter
footprint FiltroLinea (LFV129-102U)
pins: 1, 2, 3, 4

## FiltroLineaEpcos
designator *
footprint FiltroLineaEpcos
pins: 1, 2, 3, 4

## FL7733A
designator ?
footprint so8
pins: 1 CS, 2 GATE, 3 GND, 4 VDD, 5 VS, 6 COMI, 7 nc, 8 HV

## FRDMKE02ZBoard
designator B?, comment FREDOM MKE02 BOARD
footprint FRDMKE02
pins: 1 PTE0/S0_SCK, 2 nc, 3 PTE1/S0_MOSI, 4 P3V3, 5 PTE2/S0_MISO, 6 RESET, 7 PTE3/S0_PC, 8 P3V3, 9 PTD2/KBI1_P2, 10 P5VUSB, 11 PTF1, 12 GND, 13 PTF0, 14 GND, 15 PTG3, 16 P5-9V_Vin, 17 PTG1, 18 PTF7, 19 PTG2, 20 PTC0/ADC8, 21 PTG0, 22 PTC1/ADC9, 23 PTC4/RTC0, 24 PTC2/ADC10, 25 PTH7, 26 PTC3/ADC11, 27 PTH6, 28 PTF6, 29 PTA3/UART0_TX, 30 PTB3/ANB2, 31 PTA2/UART0_RX, 32 PTA7/ANB1, 33 VREFH, 34 PTA6/ANB0, 35 GND, 36 P3V3_MOTOR, 37 PTB2/ADC6, 38 PTF6_AN1, 39 PTB4/FTM2_ch4, 40 PTF7_AN0, 41 PTB3/ADC7, 42 PTF2, 43 PTB5, 44 PTF3, 45 PTH0, 46 PTC1/cpy, 47 PTA0/ADC0, 48 PTB2/cpy, 49 PTA7/ADC3, 50 PTE5, 51 PTB4, 52 PTE6, 53 PTD1, 54 PTC5, 55 PTA1/ADC1, 56 PTE4, 57 PTD0, 58 PTD6/UART2_RX, 59 PTD5, 60 PTD7/UART2_TX, 61 PTB1/UART0_TX, 62 PTC6-db, 63 PTB0/UART0_RX, 64 PTC7-db

## Fuente_Terminal
designator Flyback
footprint Fly_Back_Terminal
pins: 0, 1, 2, 3, 4, 5, 6, 7, 8, 9, 10, 11, 12, 13, 14, 15
text: +12V; Alimentacion; +5V; Salidas; +3.3V; GND; GND_2

## FuenteMod
designator *
footprint FuenteMeca
text: Fuente

## FuenteRegresivaV1.0
designator ?, comment Fuente Regresiva
footprint FuenteRegV1
pins: 1 +15V, 2 a, 3 b, 4 c, 5 d, 6 GND_Green, 7 GND_Red, 8 +15V, 9 n.c., 10 g, 11 f, 12 e, 13 GND_Green, 14 GND_Red, 15 +15V, 16 a, 17 b, 18 c, 19 d, 20 GND_Green, 21 GND_Red, 22 +15V, 23 n.c., 24 e, 25 f, 26 g, 27 GND_Green, 28 GND_Red

## Fusible
designator F?
footprint Fusible
footprint Fusible Pines Verticales
footprint Fusible 10A
footprint PicoFuse
footprint Fusible Multitamanio
pins: 0, 1

## FusibleLargo
designator Fusible?, comment Largo
footprint FusibleLargo
pins: 0, 1, 2, 3

## FusibleRedondo
designator F?, comment F?
37014000410 LitelFusse
footprint FusibleRedondo
pins: 1, 2

## G24_MOTO
designator G24?, comment MODULO GPRS
footprint G_24_Molex_0529910708
pins: 1 GND, 2 GND, 3 GND, 4 GND, 5 VCC, 6 VCC, 7 VCC, 8 VCC, 9 RTS_N, 10 USB_VBUS, 11 RXD_N, 12 USB_D+, 13 DSR_N, 14 USB_D-, 15 CTS_N, 16 WKUPI_N, 17 DCD_N, 18 DCN_DIN, 19 DTR_N, 20 PCM_DOUT, 21 TXD_N, 22 PCM_CLK, 23 RI_N, 24 PCM_FS, 25 RESET_N, 26 WKUPO_N, 27 VREF, 28 GPIO1, 29 RXD2_N, 30 GPIO2, 31 TXD2_N, 32 GPIO3, 33 RTS2_N, 34 GPIO4, 35 CTS2_N, 36 GPIO5, 37 ADC1, 38 GPIO6, 39 TX_EN_N, 40 GPIO7, 41 ANT_DET, 42 GPIO8, 43 ADC2, 44 SIM_RST_N, 45 UID, 46 SIM_CLK, 47 ADC3, 48 SIM_VCC, 49 GPRS_DET_N, 50 SIM_PD, 51 IGN, 52 SIM_DIO, 53 ON_OFF_N, 54 LCD_CS, 55 HDST_INT_N, 56 LCD_SD, 57 HDST_MIC, 58 LCD_CLCK, 59 AGND, 60 LCD_RS, 61 MIC, 62 DNU, 63 ALRT_N, 64 DNU, 65 ALRT_P, 66 DNU, 67 SPKR_N, 68 DNU, 69 SPKR_P, 70 DNU

## GPS-SPI
designator *
footprint GPS_VERT
pins: 1 GND, 2 nc, 3 CLK, 4 CS, 5 MISO, 6 V+

## GPS_HOLES
designator *
footprint HOLES_GPS
text: MEC_GPS

## HC05Bluetooth
designator *
footprint pcbhc05single
pins: 1 STATE, 2 RX, 3 TX, 4 GND, 5 VCC, 6 EN

## HEADER1X2 0
designator ?
footprint BOR 0-2
pins: 1, 2

## HEADER1X2 10mmPitch
designator H?  (value not drawn)
Conector de doble ancho de separacion de patas
footprint BOR 0-2 HV 10mm pitch
pins: 1, 2

## HEADER1X3 0
designator ?
footprint BOR 0-3
footprint BOR 0-3 HV
pins: 1, 2, 3

## HEADER1X4
designator ?
footprint sip4
pins: 1, 2, 3, 4

## HEADER1X4 0
designator ?
pins: 1, 2, 3, 4

## HEADER1X5
designator ?
footprint BOR90-5
pins: 1, 2, 3, 4, 5

## HEADER1X6 0
designator ?
footprint BOR 0-6
pins: 1, 2, 3, 4, 5, 6

## HEADER1X8
designator ?
footprint BOR 0-8
pins: 1, 2, 3, 4, 5, 6, 7, 8

## HEADER1X9
designator ?
footprint BORNE 1X9 + TERMINAL (DECA MX)
pins: 1, 2, 3, 4, 5, 6, 7, 8, 9

## HEADER1X10
designator ?  (value not drawn)
Bornera simple de 1x10
footprint BOR 0-10
pins: 1, 2, 3, 4, 5, 6, 7, 8, 9, 10

## HEADER2X3
designator *
footprint MKKDS3-3 (Bornera doble de 3x3)
pins: 1, 2, 3, 4, 5, 6

## Header 1x1
designator *
footprint Header 1x1
pins: 1

## ICL7665
designator *
Voltage Supervisor
footprint DIP8
pins: 1 OUT1, 2 HIST1, 3 SET1, 4 GND, 5 HIST2, 6 SET2, 7 OUT2, 8 V+
text: MAXIM; IL7665

## IDC2x5 A
designator *
footprint IDC2X5 MV
pins: 1, 2, 3, 4, 5

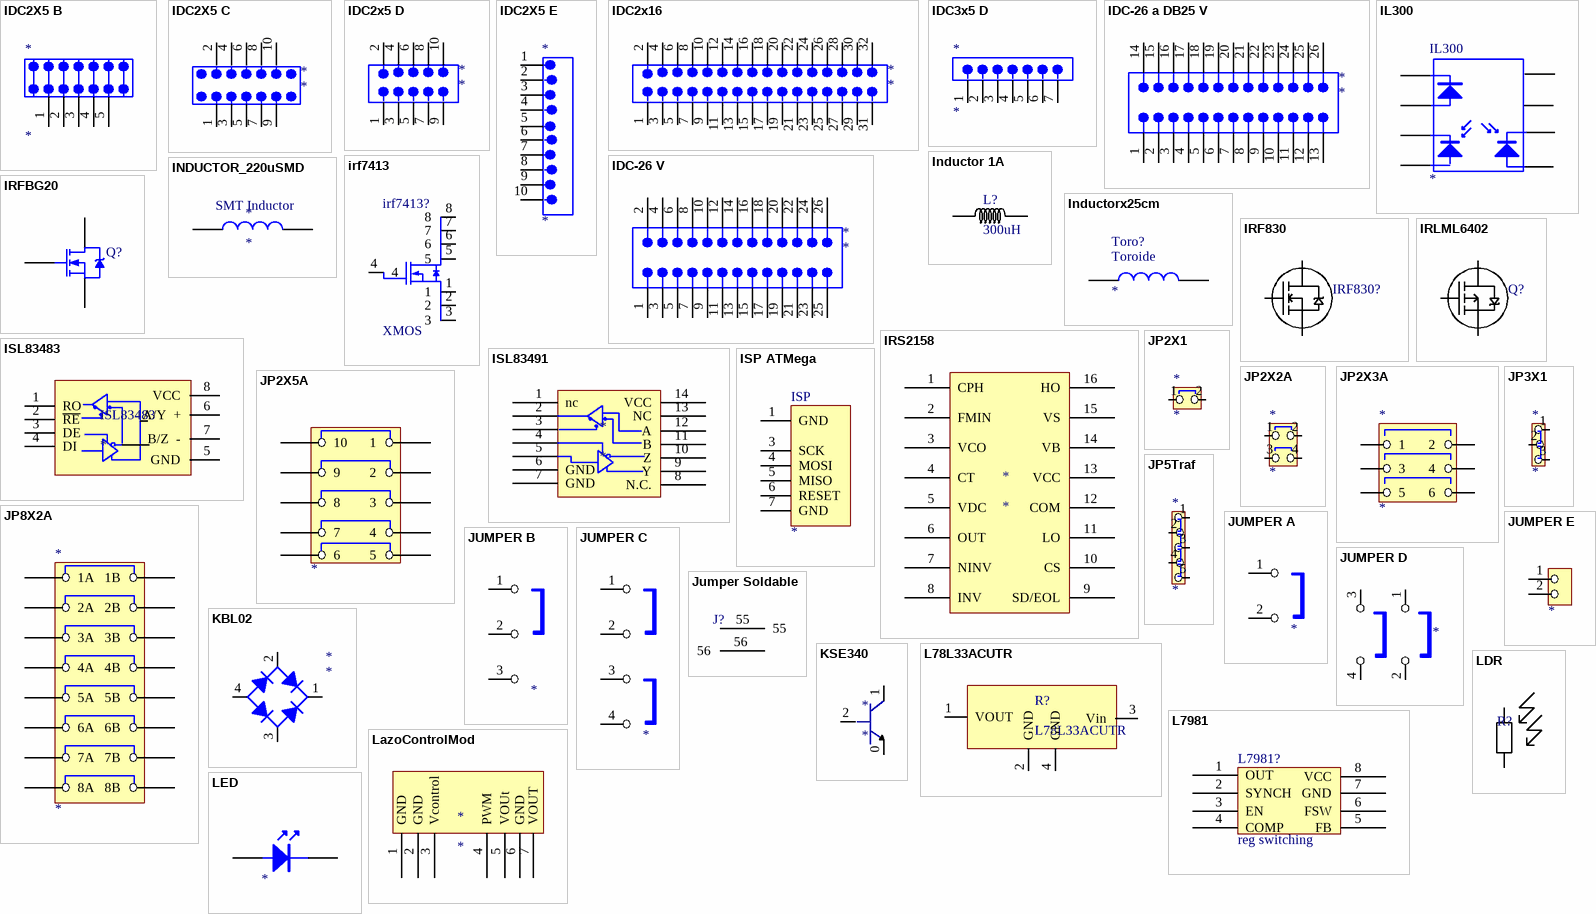
[diagram p5: symbols IDC2X5 B to LED]

## IDC2X5 B
designator *
footprint IDC2x5 HV
pins: 1, 2, 3, 4, 5

## IDC2X5 C
designator *
footprint IDC2x5 HV A
pins: 1, 2, 3, 4, 5, 6, 7, 8, 9, 10

## IDC2x5 D
designator *
footprint IDC2X5 MV A
pins: 1, 2, 3, 4, 5, 6, 7, 8, 9, 10

## IDC2X5 E
designator *
footprint IDC2x5 HV A
footprint IDC2x5
pins: 1, 2, 3, 4, 5, 6, 7, 8, 9, 10

## IDC2x16
designator *
footprint IDC2x16
pins: 1, 2, 3, 4, 5, 6, 7, 8, 9, 10, 11, 12, 13, 14, 15, 16, 17, 18, 19, 20, 21, 22, 23, 24 34, 25, 26, 27, 28, 29, 30, 31, 32

## IDC3x5 D
designator *
footprint SIP5X3
pins: 1, 2, 3, 4, 5, 6 5, 7

## IDC-26 a DB25 V
designator *
footprint IDC-26 a DB25 V
pins: 1, 2, 3, 4, 5, 6, 7, 8, 9, 10, 11, 12, 13, 14, 15, 16, 17, 18, 19, 20, 21, 22, 23, 24, 25, 26

## IDC-26 V
designator *
pins: 1, 2, 3, 4, 5, 6, 7, 8, 9, 10, 11, 12, 13, 14, 15, 16, 17, 18, 19, 20, 21, 22, 23, 24, 25, 26

## IL300
designator IL300
footprint DIP-8
pins: 1, 2, 3, 4, 5 E, 6, 7, 8

## Inductor 1A
designator L?, comment 300uH
footprint Bobina_1A
pins: 1, 2

## INDUCTOR_220uSMD
designator *
footprint INDUCTOR_220uSMD
pins: 1, 2
text: SMT Inductor

## Inductorx25cm
designator Toro?
100uHg
footprint inductorx2.5cm
footprint inductorx2.5cm - costado
pins: 1, 2
text: Toroide

## IRF830
designator IRF830?  (value not drawn)
MOSFET Canal N
footprint IRF830
pins: D, G, S

## irf7413
designator irf7413?, comment XMOS
footprint SO-G8
pins: 1, 2, 3, 4, 5, 6, 7, 8

## IRFBG20
designator Q?
HEXFET Power MOSFET; Note: Pin 2 is electrically connected to pin 4.; Published: 8-Jun-2000; LatestRevisionDate: 17-Jul-2002; LatestRevisionNote: Re-released for DXP Platform.; DatasheetVersion: PD-9.604A; PackageVersion: Feb-1997; PackageReference: TO-220AB; Publisher: Altium Limited; PackageDescription: TO, Thru-Hole, Vertical, Heatsink Mounted; 3 In-Line Leads; Pitch 2.54 mm; ComponentLink1Description: Manufacturer Link; ComponentLink1URL: http://www.irf.com/; ComponentLink2Description: Datasheet; ComponentLink2URL: http://www.irf.com/product-info/datasheets/data/irfbg20.pdf
footprint TO-220AB-Heatsink (TO, Thru-Hole, Vertical, Heatsink Mounted; 3 In-Line Leads; Pitch 2.54 mm)
pins: 1 G, 2 D, 3 S

## IRLML6402
designator Q?  (value not drawn)
Hexfet power mosfet
footprint SOT95P245X110-3N (SOT23, 3-Leads, Body 3,0x2,6mm (max), Pitch 0,95mm, IPC Medium Density)
pins: 1 G, 2 S, 3 D

## IRS2158
designator *
footprint SOIC16N
pins: 1 CPH, 2 FMIN, 3 VCO, 4 CT, 5 VDC, 6 OUT, 7 NINV, 8 INV, 9 SD/EOL, 10 CS, 11 LO, 12 COM, 13 VCC, 14 VB, 15 VS, 16 HO

## ISL83483
designator ISL83483
footprint so8
pins: 1 RO, 2 ~{RE}, 3 DE, 4 DI, 5 GND, 6 A/Y  +, 7 B/Z  -, 8 VCC

## ISL83491
designator *
footprint SOIC14
pins: 1 nc, 2 RO, 3 ~{RE}, 4 DE, 5 DI, 6 GND, 7 GND, 8 N.C., 9 Y, 10 Z, 11 B, 12 A, 13 NC, 14 VCC

## ISP ATMega
designator ISP
footprint ISP (Programacion)
pins: 1 GND, 3 SCK, 4 MOSI, 5 MISO, 6 RESET, 7 GND

## JP2X1
designator *
footprint JP2X2A
footprint JP2X1
pins: 1, 2

## JP2X2A
designator *
footprint JP2X2A
pins: 1, 2, 3, 4

## JP2X3A
designator *
footprint JP2X3A
pins: 1, 2, 3, 4, 5, 6

## JP2X5A
designator ?
footprint JP2X5A
pins: 1, 2, 3, 4, 5, 6, 7, 8, 9, 10

## JP3X1
designator *
footprint SIP3
pins: 1, 2, 3

## JP5Traf
designator *
footprint JPTraf
pins: 1, 2, 3, 4, 5

## JP8X2A
designator *
pins: 1 1A, 2 1B, 3 2A, 4 2B, 5 3A, 6 3B, 7 4A, 8 4B, 9 5A, 10 5B, 11 6A, 12 6B, 13 7A, 14 7B, 15 8A, 16 8B

## JUMPER A
designator ?
pins: 1, 2

## JUMPER B
designator ?
pins: 1, 2, 3

## JUMPER C
designator ?
pins: 1, 2, 3, 4

## JUMPER D
designator ?
pins: 1, 2, 3, 4

## JUMPER E
designator ?
footprint SIP2
pins: 1, 2

## Jumper Soldable
designator J?  (value not drawn)
pins: 55, 56

## KBL02
designator *
BRIDGE RECTIFIERS
footprint KBL0x
pins: 1 K, 2 ~, 3 ~, 4 A

## KSE340
designator *
footprint TrxMedPot
pins: 0 E, 1 C, 2 B

## L78L33ACUTR
designator R?
footprint SOT89
pins: 1 VOUT, 2 GND, 3 Vin, 4 GND

## L7981
designator L7981?, comment reg switching
footprint SOIC8 (Footprint not found)
pins: 1 OUT, 2 SYNCH, 3 EN, 4 COMP, 5 FB, 6 FSW, 7 GND, 8 VCC

## LazoControlMod
designator *
footprint PlacaControl
pins: 1 GND, 2 GND, 3 Vcontrol, 4 PWM, 5 VOUt, 6 GND, 7 VOUT

## LDR
designator R?  (value not drawn)
Resistor variable con la luz
footprint LDR2
pins: 1, 2

## LED
designator ?
pins: 1 A, 2 K

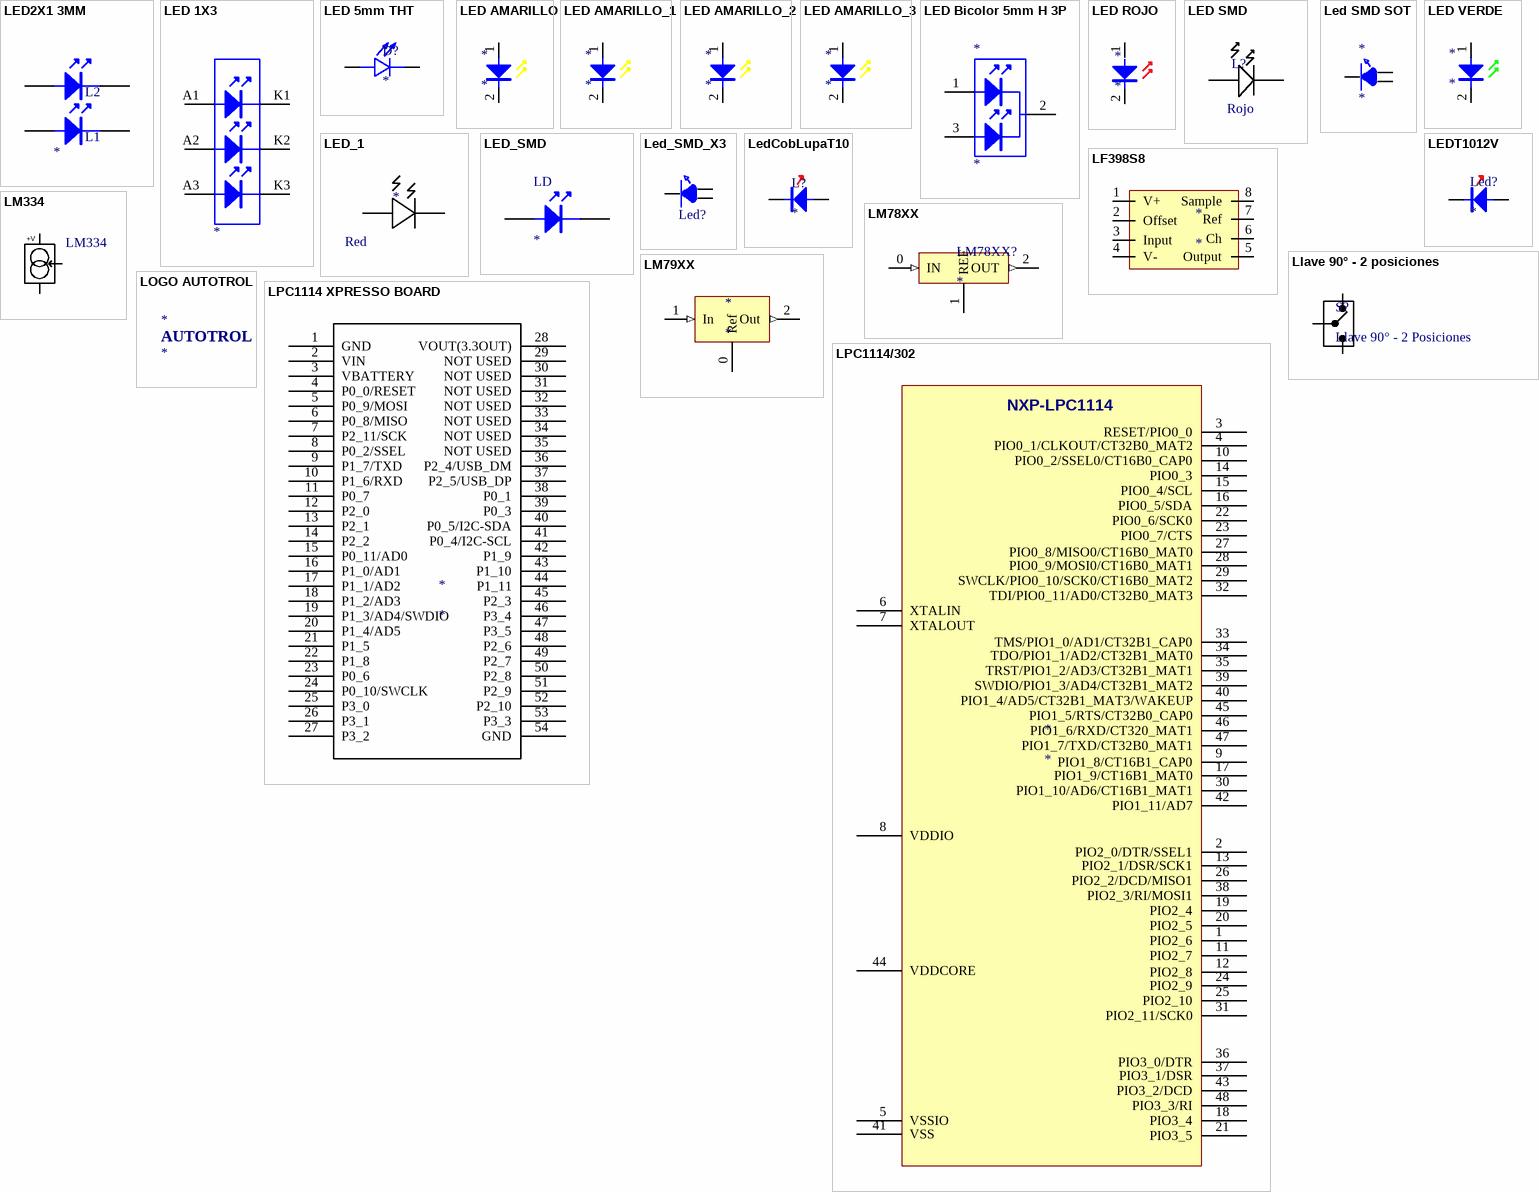
[diagram p6: symbols LED2X1 3MM to LPC1114/302]

## LED2X1 3MM
designator ?
footprint LED2X1
pins: 1 A1, 2 K1, 3 A2, 4 K2
text: L2; L1

## LED 1X3
designator ?
pins: A1, A2, A3, K1, K2, K3

## LED 5mm THT
designator D?
LED 5mm con pines espaciados Round LED Lamp Through Hole; MF: Optek; MP: OVLFR3C7; SnapEDA_Link: https://www.snapeda.com/parts/OVLFR3C7/Optek/view-part/?ref=snap; Package: Radial Optek; Value: *; Check_prices: https://www.snapeda.com/parts/OVLFR3C7/Optek/view-part/?ref=eda
footprint LEDRD254W51D580H870
pins: 1 A, 2 C

## LED AMARILLO
designator *
footprint LED AMARILLO C
pins: 1, 2

## LED AMARILLO_1
designator *
footprint LED AMARILLO C
pins: 1, 2

## LED AMARILLO_2
designator *
footprint LED AMARILLO C
pins: 1, 2

## LED AMARILLO_3
designator *
footprint LED AMARILLO C
pins: 1, 2

## LED Bicolor 5mm H 3P
designator *
footprint LED Bicolor 5mm H 3P
pins: 1, 2, 3

## LED ROJO
designator *
footprint LED ROJO C
pins: 1, 2

## LED SMD
designator L?  Colour: Rojo
LED de montaje superficial
footprint LED SMD 1206 (3216)
footprint LED SMD 1206 (3216) - amarillo
footprint LED SMD 1206 (3216) - verde
footprint LED SMD 1206 (3216) - rojo
pins: 1, 2

## Led SMD SOT
designator *
footprint Led SMD 3Pin-SOT
pins: 1, 2, 3

## LED VERDE
designator *
footprint LED VERDE C
pins: 1, 2

## LED_1
designator *  Colour: Red  (hidden comment: *)
LED
footprint LED
pins: 1, 2

## LED_SMD
designator LD
2.1x0.6mm RIGHT ANGLE SURFACE LED
footprint led smd (2.1x0.6mm RIGHT ANGLE SURFACE LED)
pins: 1 K, 2 A

## Led_SMD_X3
designator Led?, comment smd  (value not drawn)
footprint Diode_smd_3
pins: 1, 2, 3

## LedCobLupaT10
designator L?
footprint LedLupaCob
pins: 0, 1

## LEDT1012V
designator Led?
footprint LedT10
pins: 0, 1

## LF398S8
designator *
footprint so8
pins: 1 V+, 2 Offset, 3 Input, 4 V-, 5 Output, 6 Ch, 7 Ref, 8 Sample

## Llave 90° - 2 posiciones
designator S?, comment Llave 90° - 2 Posiciones
footprint Llave 90° - 2 posiciones
pins: 1, 2, 3

## LM78XX
designator LM78XX?
Regulador lineal positivo
footprint PCBLM78XX
pins: 0 IN (in), 1 REF, 2 OUT (out)

## LM79XX
designator *
Regulador lineal negativo
footprint PCB LM79XX
pins: 0 Ref, 1 In (in), 2 Out (out)

## LM334
designator LM334  (value not drawn)
Fuente de corriente de 3 pines
footprint LM334_PCB
pins: R, V+, V-
text: +V

## LOGO AUTOTROL
designator *
footprint LogoAutotrol
footprint LOGOAUTOTROLG
footprint Logo 1
footprint Logo 2
footprint Logo 3
footprint Logo 4
text: AUTOTROL

## LPC1114 XPRESSO BOARD
designator *
footprint lpcxpresso lpc1114
pins: 1 GND, 2 VIN, 3 VBATTERY, 4 P0_0/RESET, 5 P0_9/MOSI, 6 P0_8/MISO, 7 P2_11/SCK, 8 P0_2/SSEL, 9 P1_7/TXD, 10 P1_6/RXD, 11 P0_7, 12 P2_0, 13 P2_1, 14 P2_2, 15 P0_11/AD0, 16 P1_0/AD1, 17 P1_1/AD2, 18 P1_2/AD3, 19 P1_3/AD4/SWDIO, 20 P1_4/AD5, 21 P1_5, 22 P1_8, 23 P0_6, 24 P0_10/SWCLK, 25 P3_0, 26 P3_1, 27 P3_2, 28 VOUT(3.3OUT), 29 NOT USED, 30 NOT USED, 31 NOT USED, 32 NOT USED, 33 NOT USED, 34 NOT USED, 35 NOT USED, 36 P2_4/USB_DM, 37 P2_5/USB_DP, 38 P0_1, 39 P0_3, 40 P0_5/I2C-SDA, 41 P0_4/I2C-SCL, 42 P1_9, 43 P1_10, 44 P1_11, 45 P2_3, 46 P3_4, 47 P3_5, 48 P2_6, 49 P2_7, 50 P2_8, 51 P2_9, 52 P2_10, 53 P3_3, 54 GND

## LPC1114/302
designator *
Microprocesador de 32bits
footprint TSQFP50P900X900X160-48N (TSQFP, 48-Leads, Body 9,1x9,1mm (max), Pitch 0,50mm, IPC Medium Density)
pins: 1 PIO2_6, 2 PIO2_0/DTR/SSEL1, 3 RESET/PIO0_0, 4 PIO0_1/CLKOUT/CT32B0_MAT2, 5 VSSIO, 6 XTALIN, 7 XTALOUT, 8 VDDIO, 9 PIO1_8/CT16B1_CAP0, 10 PIO0_2/SSEL0/CT16B0_CAP0, 11 PIO2_7, 12 PIO2_8, 13 PIO2_1/DSR/SCK1, 14 PIO0_3, 15 PIO0_4/SCL, 16 PIO0_5/SDA, 17 PIO1_9/CT16B1_MAT0, 18 PIO3_4, 19 PIO2_4, 20 PIO2_5, 21 PIO3_5, 22 PIO0_6/SCK0, 23 PIO0_7/CTS, 24 PIO2_9, 25 PIO2_10, 26 PIO2_2/DCD/MISO1, 27 PIO0_8/MISO0/CT16B0_MAT0, 28 PIO0_9/MOSI0/CT16B0_MAT1, 29 SWCLK/PIO0_10/SCK0/CT16B0_MAT2, 30 PIO1_10/AD6/CT16B1_MAT1, 31 PIO2_11/SCK0, 32 TDI/PIO0_11/AD0/CT32B0_MAT3, 33 TMS/PIO1_0/AD1/CT32B1_CAP0, 34 TDO/PIO1_1/AD2/CT32B1_MAT0, 35 TRST/PIO1_2/AD3/CT32B1_MAT1, 36 PIO3_0/DTR, 37 PIO3_1/DSR, 38 PIO2_3/RI/MOSI1, 39 SWDIO/PIO1_3/AD4/CT32B1_MAT2, 40 PIO1_4/AD5/CT32B1_MAT3/WAKEUP, 41 VSS, 42 PIO1_11/AD7, 43 PIO3_2/DCD, 44 VDDCORE, 45 PIO1_5/RTS/CT32B0_CAP0, 46 PIO1_6/RXD/CT320_MAT1, 47 PIO1_7/TXD/CT32B0_MAT1, 48 PIO3_3/RI
text: NXP-LPC1114

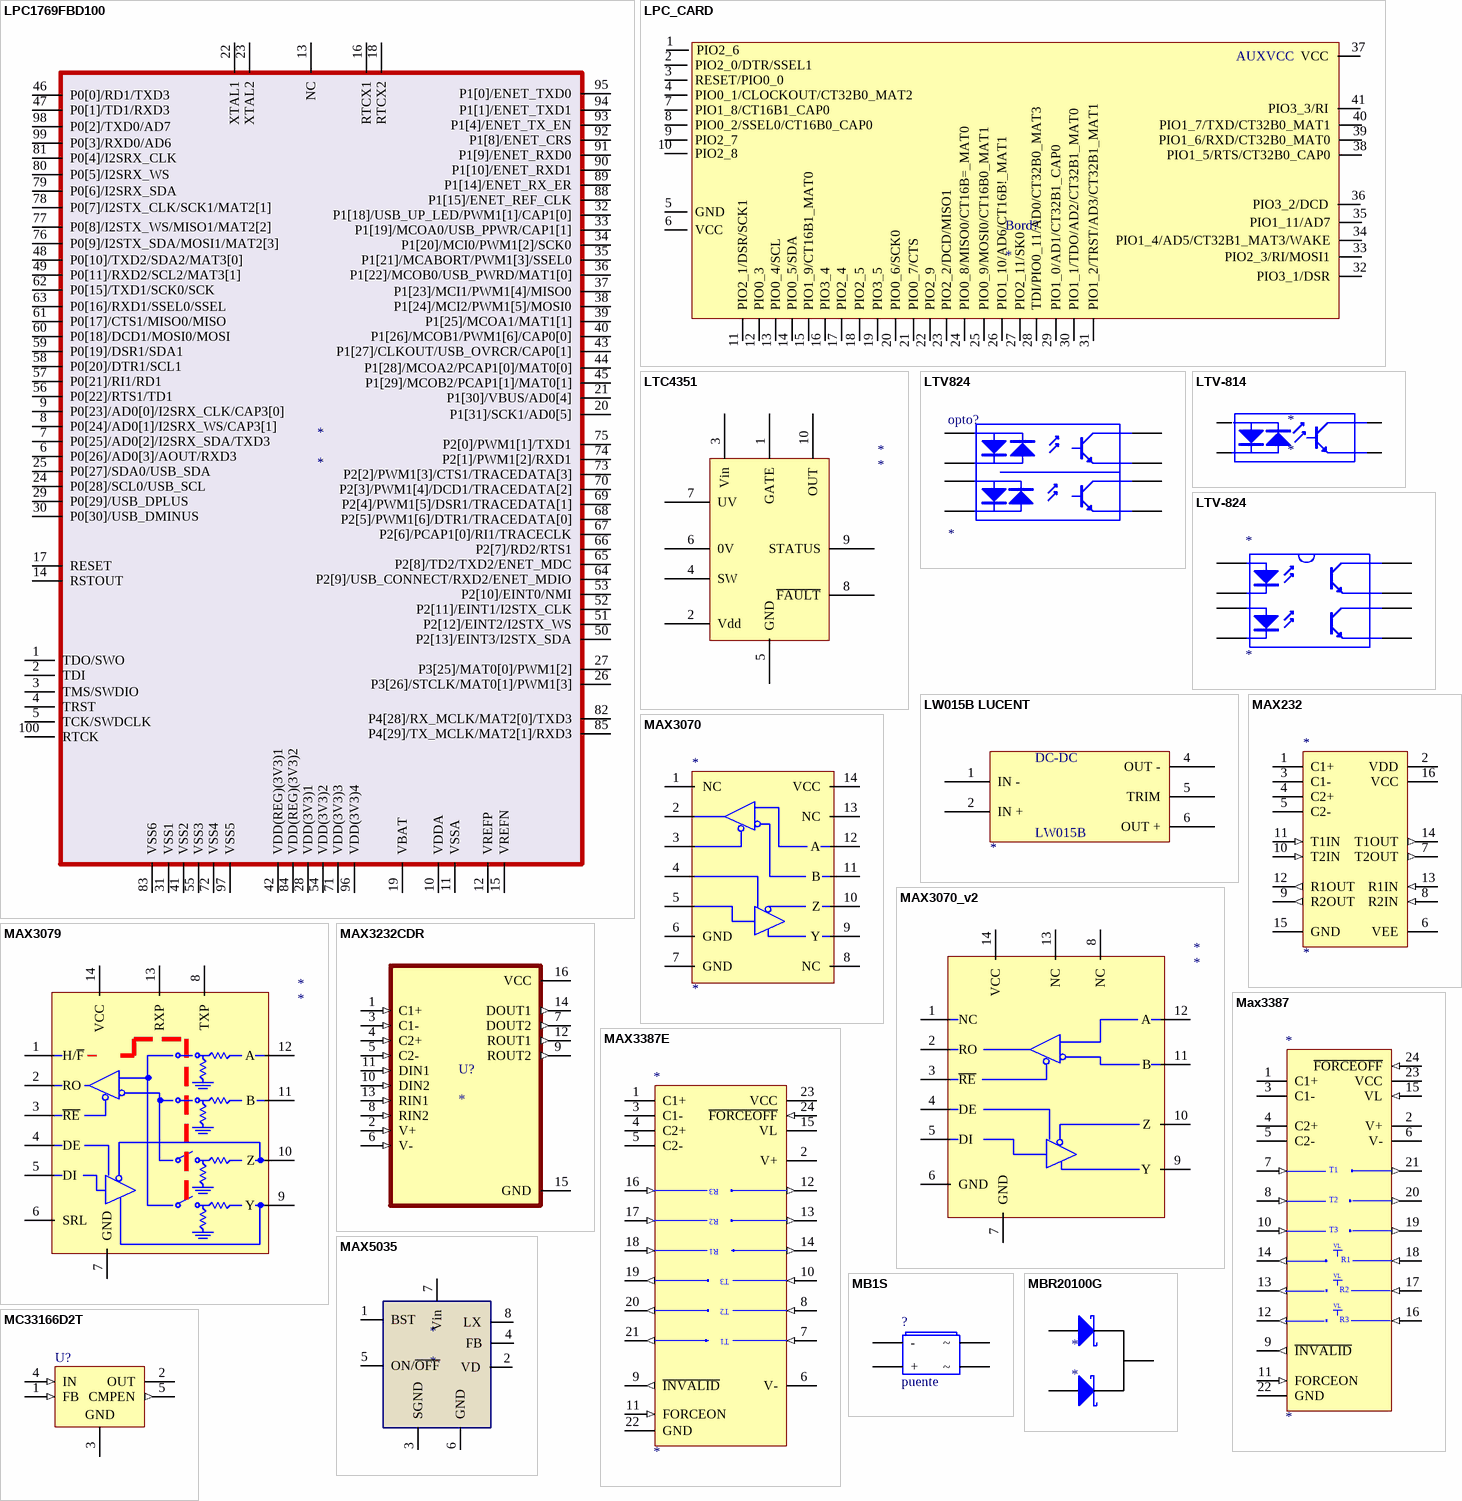
[diagram p7: symbols LPC1769FBD100 to MC33166D2T]

## LPC1769FBD100
designator *
footprint LQFP_100
pins: 1 TDO/SWO, 2 TDI, 3 TMS/SWDIO, 4 TRST, 5 TCK/SWDCLK, 6 P0[26]/AD0[3]/AOUT/RXD3, 7 P0[25]/AD0[2]/I2SRX_SDA/TXD3, 8 P0[24]/AD0[1]/I2SRX_WS/CAP3[1], 9 P0[23]/AD0[0]/I2SRX_CLK/CAP3[0], 10 VDDA, 11 VSSA, 12 VREFP, 13 NC, 14 RSTOUT, 15 VREFN, 16 RTCX1, 17 RESET, 18 RTCX2, 19 VBAT, 20 P1[31]/SCK1/AD0[5], 21 P1[30]/VBUS/AD0[4], 22 XTAL1, 23 XTAL2, 24 P0[28]/SCL0/USB_SCL, 25 P0[27]/SDA0/USB_SDA, 26 P3[26]/STCLK/MAT0[1]/PWM1[3], 27 P3[25]/MAT0[0]/PWM1[2], 28 VDD(3V3)1, 29 P0[29]/USB_DPLUS, 30 P0[30]/USB_DMINUS, 31 VSS1, 32 P1[18]/USB_UP_LED/PWM1[1]/CAP1[0], 33 P1[19]/MCOA0/USB_PPWR/CAP1[1], 34 P1[20]/MCI0/PWM1[2]/SCK0, 35 P1[21]/MCABORT/PWM1[3]/SSEL0, 36 P1[22]/MCOB0/USB_PWRD/MAT1[0], 37 P1[23]/MCI1/PWM1[4]/MISO0, 38 P1[24]/MCI2/PWM1[5]/MOSI0, 39 P1[25]/MCOA1/MAT1[1], 40 P1[26]/MCOB1/PWM1[6]/CAP0[0], 41 VSS2, 42 VDD(REG)(3V3)1, 43 P1[27]/CLKOUT/USB_OVRCR/CAP0[1], 44 P1[28]/MCOA2/PCAP1[0]/MAT0[0], 45 P1[29]/MCOB2/PCAP1[1]/MAT0[1], 46 P0[0]/RD1/TXD3, 47 P0[1]/TD1/RXD3, 48 P0[10]/TXD2/SDA2/MAT3[0], 49 P0[11]/RXD2/SCL2/MAT3[1], 50 P2[13]/EINT3/I2STX_SDA, 51 P2[12]/EINT2/I2STX_WS, 52 P2[11]/EINT1/I2STX_CLK, 53 P2[10]/EINT0/NMI, 54 VDD(3V3)2, 55 VSS3, 56 P0[22]/RTS1/TD1, 57 P0[21]/RI1/RD1, 58 P0[20]/DTR1/SCL1, 59 P0[19]/DSR1/SDA1, 60 P0[18]/DCD1/MOSI0/MOSI, 61 P0[17]/CTS1/MISO0/MISO, 62 P0[15]/TXD1/SCK0/SCK, 63 P0[16]/RXD1/SSEL0/SSEL, 64 P2[9]/USB_CONNECT/RXD2/ENET_MDIO, 65 P2[8]/TD2/TXD2/ENET_MDC, 66 P2[7]/RD2/RTS1, 67 P2[6]/PCAP1[0]/RI1/TRACECLK, 68 P2[5]/PWM1[6]/DTR1/TRACEDATA[0], 69 P2[4]/PWM1[5]/DSR1/TRACEDATA[1], 70 P2[3]/PWM1[4]/DCD1/TRACEDATA[2], 71 VDD(3V3)3, 72 VSS4, 73 P2[2]/PWM1[3]/CTS1/TRACEDATA[3], 74 P2[1]/PWM1[2]/RXD1, 75 P2[0]/PWM1[1]/TXD1, 76 P0[9]/I2STX_SDA/MOSI1/MAT2[3], 77 P0[8]/I2STX_WS/MISO1/MAT2[2], 78 P0[7]/I2STX_CLK/SCK1/MAT2[1], 79 P0[6]/I2SRX_SDA, 80 P0[5]/I2SRX_WS, 81 P0[4]/I2SRX_CLK, 82 P4[28]/RX_MCLK/MAT2[0]/TXD3, 83 VSS6, 84 VDD(REG)(3V3)2, 85 P4[29]/TX_MCLK/MAT2[1]/RXD3, 88 P1[15]/ENET_REF_CLK, 89 P1[14]/ENET_RX_ER, 90 P1[10]/ENET_RXD1, 91 P1[9]/ENET_RXD0, 92 P1[8]/ENET_CRS, 93 P1[4]/ENET_TX_EN, 94 P1[1]/ENET_TXD1, 95 P1[0]/ENET_TXD0, 96 VDD(3V3)4, 97 VSS5, 98 P0[2]/TXD0/AD7, 99 P0[3]/RXD0/AD6, 100 RTCK

## LPC_CARD
designator Bord?
footprint LPCBOARDPCB
pins: 1 PIO2_6, 2 PIO2_0/DTR/SSEL1, 3 RESET/PIO0_0, 4 PIO0_1/CLOCKOUT/CT32B0_MAT2, 5 GND (power), 6 VCC (power), 7 PIO1_8/CT16B1_CAP0, 8 PIO0_2/SSEL0/CT16B0_CAP0, 9 PIO2_7, 10 PIO2_8, 11 PIO2_1/DSR/SCK1, 12 PIO0_3, 13 PIO0_4/SCL, 14 PIO0_5/SDA, 15 PIO1_9/CT16B1_MAT0, 16 PIO3_4, 17 PIO2_4, 18 PIO2_5, 19 PIO3_5, 20 PIO0_6/SCK0, 21 PIO0_7/CTS, 22 PIO2_9, 23 PIO2_2/DCD/MISO1, 24 PIO0_8/MISO0/CT16B=_MAT0, 25 PIO0_9/MOSI0/CT16B0_MAT1, 26 PIO1_10/AD6/CT16B!_MAT1, 27 PIO2_11/SK0, 28 TDI/PIO0_11/AD0/CT32B0_MAT3, 29 PIO1_0/AD1/CT32B1_CAP0, 30 PIO1_1/TDO/AD2/CT32B1_MAT0, 31 PIO1_2/TRST/AD3/CT32B1_MAT1, 32 PIO3_1/DSR, 33 PIO2_3/RI/MOSI1, 34 PIO1_4/AD5/CT32B1_MAT3/WAKE, 35 PIO1_11/AD7, 36 PIO3_2/DCD, 37 VCC, 38 PIO1_5/RTS/CT32B0_CAP0, 39 PIO1_6/RXD/CT32B0_MAT0, 40 PIO1_7/TXD/CT32B0_MAT1, 41 PIO3_3/RI
text: AUXVCC

## LTC4351
designator *
footprint MSOP10
pins: 1 GATE, 2 Vdd, 3 Vin, 4 SW, 5 GND, 6 0V, 7 UV, 8 ~{FAULT}, 9 STATUS, 10 OUT

## LTV824
designator opto?
footprint DIP-8 (DIP; 8 Leads; Row Spacing 7.62 mm; Pitch 2.54 mm)
pins: 1 A, 2 K, 3 A, 4 K, 5 E, 6 C, 7 E, 8 C

## LTV-814
designator *
footprint DIP-4
pins: 1 A, 2 K, 3 E, 4 C

## LTV-824
designator *
footprint DIP-8 (DIP; 8 Leads; Row Spacing 7.62 mm; Pitch 2.54 mm)
pins: 1 A, 2 K, 3 A, 4 K, 5 E, 6 C, 7 E, 8 C

## LW015B LUCENT
designator ?
pins: 1 IN -, 2 IN +, 4 OUT -, 5 TRIM, 6 OUT +
text: DC-DC; LW015B

## MAX232
designator *
footprint S&N016 (SMD)
footprint NS016 (SMD)
footprint WS016 (SMD)
pins: 1 C1+, 2 VDD (power), 3 C1-, 4 C2+, 5 C2-, 6 VEE (power), 7 T2OUT (out), 8 R2IN (in), 9 R2OUT (out), 10 T2IN (in), 11 T1IN (in), 12 R1OUT (out), 13 R1IN (in), 14 T1OUT (out), 15 GND (power), 16 VCC (power)

## MAX3070
designator *
pins: 1 NC, 2 RO, 3 ~{RE}, 4 DE, 5 DI, 6 GND, 7 GND, 8 NC, 9 Y, 10 Z, 11 B, 12 A, 13 NC, 14 VCC

## MAX3070_v2
designator *
pins: 1 NC, 2 RO, 3 ~{RE}, 4 DE, 5 DI, 6 GND, 7 GND, 8 NC, 9 Y, 10 Z, 11 B, 12 A, 13 NC, 14 VCC

## MAX3079
designator *
pins: 1 H/~{F}, 2 RO, 3 ~{RE}, 4 DE, 5 DI, 6 SRL, 7 GND, 8 TXP, 9 Y, 10 Z, 11 B, 12 A, 13 RXP, 14 VCC

## MAX3232CDR
designator U?
3- to 5.5-V dual channel 250kbps RS-232 line driver/receiver with +/-15-kV ESD protection; MF: Texas Instruments; MP: MAX3232CDR; SnapEDA_Link: https://www.snapeda.com/parts/MAX3232CDR/Texas+Instruments/view-part/?ref=snap; Package: SOIC-16 Texas Instruments; Value: *; Check_prices: https://www.snapeda.com/parts/MAX3232CDR/Texas+Instruments/view-part/?ref=eda
footprint SOIC127P600X175-16N
pins: 1 C1+ (in), 2 V+ (in), 3 C1- (in), 4 C2+ (in), 5 C2- (in), 6 V- (in), 7 DOUT2 (out), 8 RIN2 (in), 9 ROUT2 (out), 10 DIN2 (in), 11 DIN1 (in), 12 ROUT1 (out), 13 RIN1 (in), 14 DOUT1 (out), 15 GND (power), 16 VCC (power)

## Max3387
designator *
3V to 5.5V, up to 250kbps True RS-232 Transceiver with 4mA Autoshutdown Plus and Power-On Reset
footprint TSSOP24
pins: 1 C1+, 2 V+ (power), 3 C1-, 4 C2+, 5 C2-, 6 V- (power), 7 T1IN (in), 8 T2IN (in), 9 ~{INVALID} (out), 10 T2IN (in), 11 FORCEON (in), 12 R2OUT (out), 13 R2OUT (out), 14 R1OUT (out), 15 VL (in), 16 R2IN (in), 17 R2IN (in), 18 R1IN (in), 19 T2OUT (out), 20 T2OUT (out), 21 T1OUT (out), 22 GND (power), 23 VCC (power), 24 ~{FORCEOFF} (in)
text: T1; T2; T3; R1; R2; R3

## MAX3387E
designator *
footprint TSSOP24
pins: 1 C1+, 2 V+ (power), 3 C1-, 4 C2+, 5 C2-, 6 V- (power), 7 T1IN (in), 8 T2IN (in), 9 ~{INVALID} (out), 10 T2IN (in), 11 FORCEON (in), 12 R2OUT (out), 13 R2OUT (out), 14 R1OUT (out), 15 VL (power), 16 R2IN (in), 17 R2IN (in), 18 R1IN (in), 19 T2OUT (out), 20 T2OUT (out), 21 T1OUT (out), 22 GND (power), 23 VCC (power), 24 ~{FORCEOFF} (in)
text: R3; R2; R1; T3; T2; T1

## MAX5035
designator *
footprint SOIC8_L (8-Pin Small Outline Integrated Circuit Package (SOIC8), IPC High Density)
pins: 1 BST, 2 VD, 3 SGND, 4 FB, 5 ON/~{OFF}, 6 GND, 7 Vin, 8 LX

## MB1S
designator ?, comment puente
footprint soic-4
pins: 1 ~, 2 ~, 3 +, 4 -

## MBR20100G
designator *
footprint TO220-AB (TO-220 Pkg)
footprint TO220-AB (TO-220 Pkg)
pins: 1 A1, 2 K, 3 A2

## MC33166D2T
designator U?
Power Switching Regulator; Note: Pin 3 is electrically connected to Pin 6 (TAB);Pin 6 is the heatsink; Published: 15-Apr-2002; DatasheetVersion: 1996; PackageVersion: Jul-1999; PackageReference: 936A-02; Publisher: Altium Limited; PackageDescription: D2-PAK; 5 Leads; Body 14.7 (inc. leads) x 10.2 mm (LxW max); ComponentLink1Description: Manufacturer Link; ComponentLink1URL: http://www.onsemi.com/site/products/taxonomy/0,4438,503,00.html; ComponentLink2Description: Datasheet; ComponentLink2URL: http://www.onsemi.com/pub/Collateral/MC34166-D.PDF
footprint 936A-02 (D2-PAK; 5 Leads; Body 14.7 (inc. leads) x 10.2 mm (LxW max))
pins: 1 FB (in), 2 OUT (oe), 3 GND (power), 4 IN (in), 5 CMPEN (out)

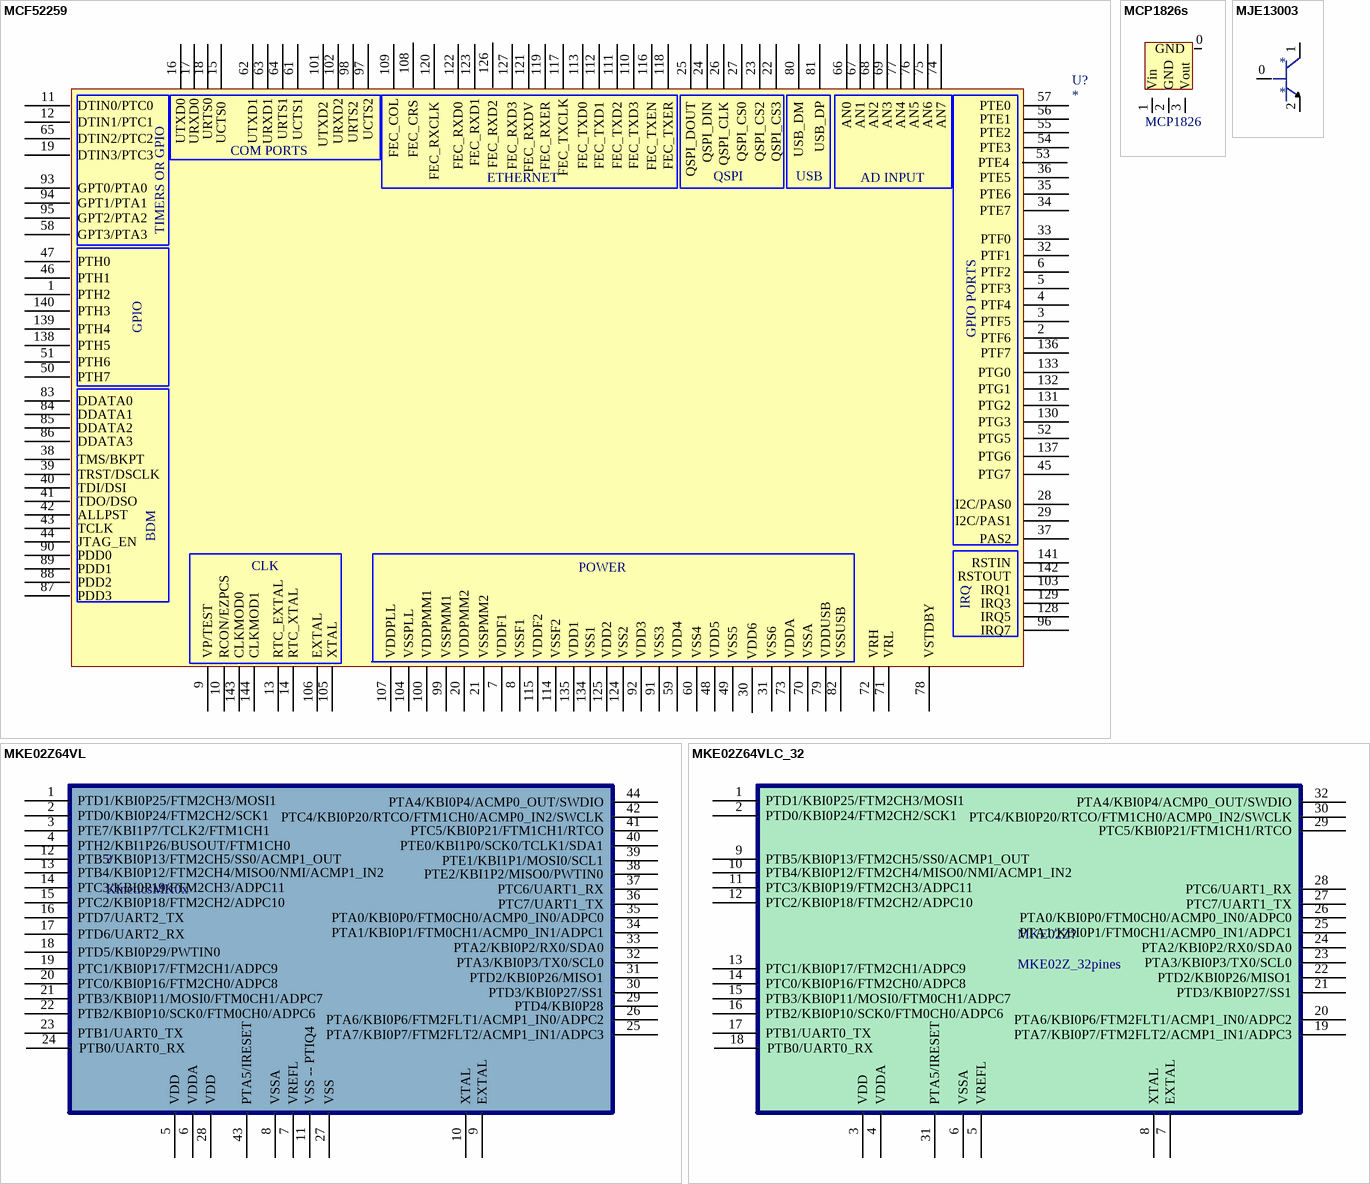
[diagram p8: symbols MCF52259 to MKE02Z64VLC_32]

## MCF52259
designator U?
footprint MCF_144LQF
pins: 1 PTH2 , 2 PTF6 , 3 PTF5 , 4 PTF4 , 5 PTF3 , 6 PTF2 , 7 VDDF1 , 8 VSSF1 , 9 VP/TEST , 10 RCON/EZPCS , 11 DTIN0/PTC0 , 12 DTIN1/PTC1 , 13 RTC_EXTAL , 14 RTC_XTAL , 15 UCTS0 , 16 UTXD0, 17  URXD0, 18  URTS0, 19 DTIN3/PTC3 , 20 VDDPMM2 , 21 VSSPMM2 , 22 QSPI_CS3 , 23 QSPI_CS2 , 24 QSPI_DIN , 25 QSPI_DOUT , 26 QSPI_CLK , 27 QSPI_CS0 , 28 I2C/PAS0 , 29 I2C/PAS1 , 30 VDD6 , 31 VSS6 , 32 PTF1 , 33 PTF0 , 34 PTE7 , 35 PTE6 , 36 PTE5 , 37 PAS2 , 38 TMS/BKPT , 39 TRST/DSCLK , 40 TDI/DSI , 41 TDO/DSO , 42 ALLPST , 43 TCLK , 44 JTAG_EN , 45 PTG7 , 46 PTH1 , 47 PTH0 , 48 VDD5 , 49 VSS5 , 50 PTH7, 51 PTH6 , 52 PTG5 , 53 PTE4 , 54 PTE3 , 55 PTE2 , 56 PTE1 , 57 PTE0 , 58 GPT3/PTA3 , 59 VDD4 , 60 VSS4 , 61  UCTS1, 62  UTXD1, 63  URXD1, 64  URTS1, 65 DTIN2/PTC2 , 66 AN0 , 67 AN1 , 68 AN2 , 69 AN3 , 70 VSSA , 71 VRL , 72 VRH , 73 VDDA , 74 AN7 , 75 AN6 , 76 AN5 , 77 AN4 , 78 VSTDBY , 79 VDDUSB , 80 USB_DM , 81 USB_DP , 82 VSSUSB , 83 DDATA0, 84 DDATA1, 85 DDATA2, 86 DDATA3, 87 PDD3 , 88 PDD2 , 89 PDD1 , 90 PDD0 , 91 VSS3 , 92 VDD3 , 93 GPT0/PTA0 , 94 GPT1/PTA1 , 95 GPT2/PTA2 , 96 IRQ7 , 97  UCTS2, 98 URTS2 , 99 VSSPMM1 , 100 VDDPMM1 , 101 UTXD2 , 102  URXD2, 103 IRQ1 , 104 VSSPLL , 105 XTAL , 106 EXTAL , 107 VDDPLL , 108 FEC_CRS , 109 FEC_COL, 110 FEC_TXD3 , 111 FEC_TXD2 , 112 FEC_TXD1 , 113 FEC_TXD0 , 114 VSSF2 , 115 VDDF2 , 116 FEC_TXEN , 117  FEC_TXCLK, 118 FEC_TXER , 119 FEC_RXER , 120 FEC_RXCLK , 121 FEC_RXDV , 122 FEC_RXD0 , 123  FEC_RXD1, 124 VSS2 , 125 VDD2 , 126 FEC_RXD2 , 127 FEC_RXD3 , 128 IRQ5 , 129 IRQ3 , 130 PTG3 , 131 PTG2 , 132 PTG1 , 133 PTG0 , 134 VSS1 , 135 VDD1 , 136 PTF7 , 137 PTG6 , 138 PTH5 , 139 PTH4 , 140 PTH3 , 141 RSTIN , 142 RSTOUT , 143 CLKMOD0 , 144 CLKMOD1 
text: COM PORTS; ETHERNET; QSPI; USB; AD INPUT; TIMERS OR GPIO; GPIO; GPIO PORTS; BDM; CLK; POWER; IRQ

## MCP1826s
designator MCP1826, comment 3.3V-1A  (value not drawn)
footprint sot_223
pins: 0 GND, 1 Vin, 2 GND, 3 Vout

## MJE13003
designator *
footprint TrxMedPot
pins: 0 B, 1 C, 2 E

## MKE02Z64VL
designator ?, comment KineticsMK0x
footprint PQFP44_L (44-Pin Plastic Quad Flat Pack (PFQP44), IPC High Density)
pins: 1 PTD1/KBI0P25/FTM2CH3/MOSI1, 2 PTD0/KBI0P24/FTM2CH2/SCK1, 3 PTE7/KBI1P7/TCLK2/FTM1CH1, 4 PTH2/KBI1P26/BUSOUT/FTM1CH0, 5 VDD, 6 VDDA, 7 VREFL, 8 VSSA, 9 EXTAL, 10 XTAL, 11 VSS -- PTIQ4, 12 PTB5/KBI0P13/FTM2CH5/SS0/ACMP1_OUT, 13 PTB4/KBI0P12/FTM2CH4/MISO0/NMI/ACMP1_IN2, 14 PTC3/KBI0P19/FTM2CH3/ADPC11, 15 PTC2/KBI0P18/FTM2CH2/ADPC10, 16 PTD7/UART2_TX, 17 PTD6/UART2_RX, 18 PTD5/KBI0P29/PWTIN0, 19 PTC1/KBI0P17/FTM2CH1/ADPC9, 20 PTC0/KBI0P16/FTM2CH0/ADPC8, 21 PTB3/KBI0P11/MOSI0/FTM0CH1/ADPC7, 22 PTB2/KBI0P10/SCK0/FTM0CH0/ADPC6, 23 PTB1/UART0_TX, 24 PTB0/UART0_RX, 25 PTA7/KBI0P7/FTM2FLT2/ACMP1_IN1/ADPC3, 26 PTA6/KBI0P6/FTM2FLT1/ACMP1_IN0/ADPC2, 27 VSS, 28 VDD, 29 PTD4/KBI0P28, 30 PTD3/KBI0P27/SS1, 31 PTD2/KBI0P26/MISO1, 32 PTA3/KBI0P3/TX0/SCL0, 33 PTA2/KBI0P2/RX0/SDA0, 34 PTA1/KBI0P1/FTM0CH1/ACMP0_IN1/ADPC1, 35 PTA0/KBI0P0/FTM0CH0/ACMP0_IN0/ADPC0, 36 PTC7/UART1_TX, 37 PTC6/UART1_RX, 38 PTE2/KBI1P2/MISO0/PWTIN0, 39 PTE1/KBI1P1/MOSI0/SCL1, 40 PTE0/KBI1P0/SCK0/TCLK1/SDA1, 41 PTC5/KBI0P21/FTM1CH1/RTCO, 42 PTC4/KBI0P20/RTCO/FTM1CH0/ACMP0_IN2/SWCLK, 43 PTA5/IRESET, 44 PTA4/KBI0P4/ACMP0_OUT/SWDIO

## MKE02Z64VLC_32
designator MKE02Z?, comment MKE02Z_32pines
footprint TQFP32_L (32-Pin Plastic Thin Quad Flat Pack (TFQP32), IPC High Density)
pins: 1 PTD1/KBI0P25/FTM2CH3/MOSI1, 2 PTD0/KBI0P24/FTM2CH2/SCK1, 3 VDD, 4 VDDA, 5 VREFL, 6 VSSA, 7 EXTAL, 8 XTAL, 9 PTB5/KBI0P13/FTM2CH5/SS0/ACMP1_OUT, 10 PTB4/KBI0P12/FTM2CH4/MISO0/NMI/ACMP1_IN2, 11 PTC3/KBI0P19/FTM2CH3/ADPC11, 12 PTC2/KBI0P18/FTM2CH2/ADPC10, 13 PTC1/KBI0P17/FTM2CH1/ADPC9, 14 PTC0/KBI0P16/FTM2CH0/ADPC8, 15 PTB3/KBI0P11/MOSI0/FTM0CH1/ADPC7, 16 PTB2/KBI0P10/SCK0/FTM0CH0/ADPC6, 17 PTB1/UART0_TX, 18 PTB0/UART0_RX, 19 PTA7/KBI0P7/FTM2FLT2/ACMP1_IN1/ADPC3, 20 PTA6/KBI0P6/FTM2FLT1/ACMP1_IN0/ADPC2, 21 PTD3/KBI0P27/SS1, 22 PTD2/KBI0P26/MISO1, 23 PTA3/KBI0P3/TX0/SCL0, 24 PTA2/KBI0P2/RX0/SDA0, 25 PTA1/KBI0P1/FTM0CH1/ACMP0_IN1/ADPC1, 26 PTA0/KBI0P0/FTM0CH0/ACMP0_IN0/ADPC0, 27 PTC7/UART1_TX, 28 PTC6/UART1_RX, 29 PTC5/KBI0P21/FTM1CH1/RTCO, 30 PTC4/KBI0P20/RTCO/FTM1CH0/ACMP0_IN2/SWCLK, 31 PTA5/IRESET, 32 PTA4/KBI0P4/ACMP0_OUT/SWDIO

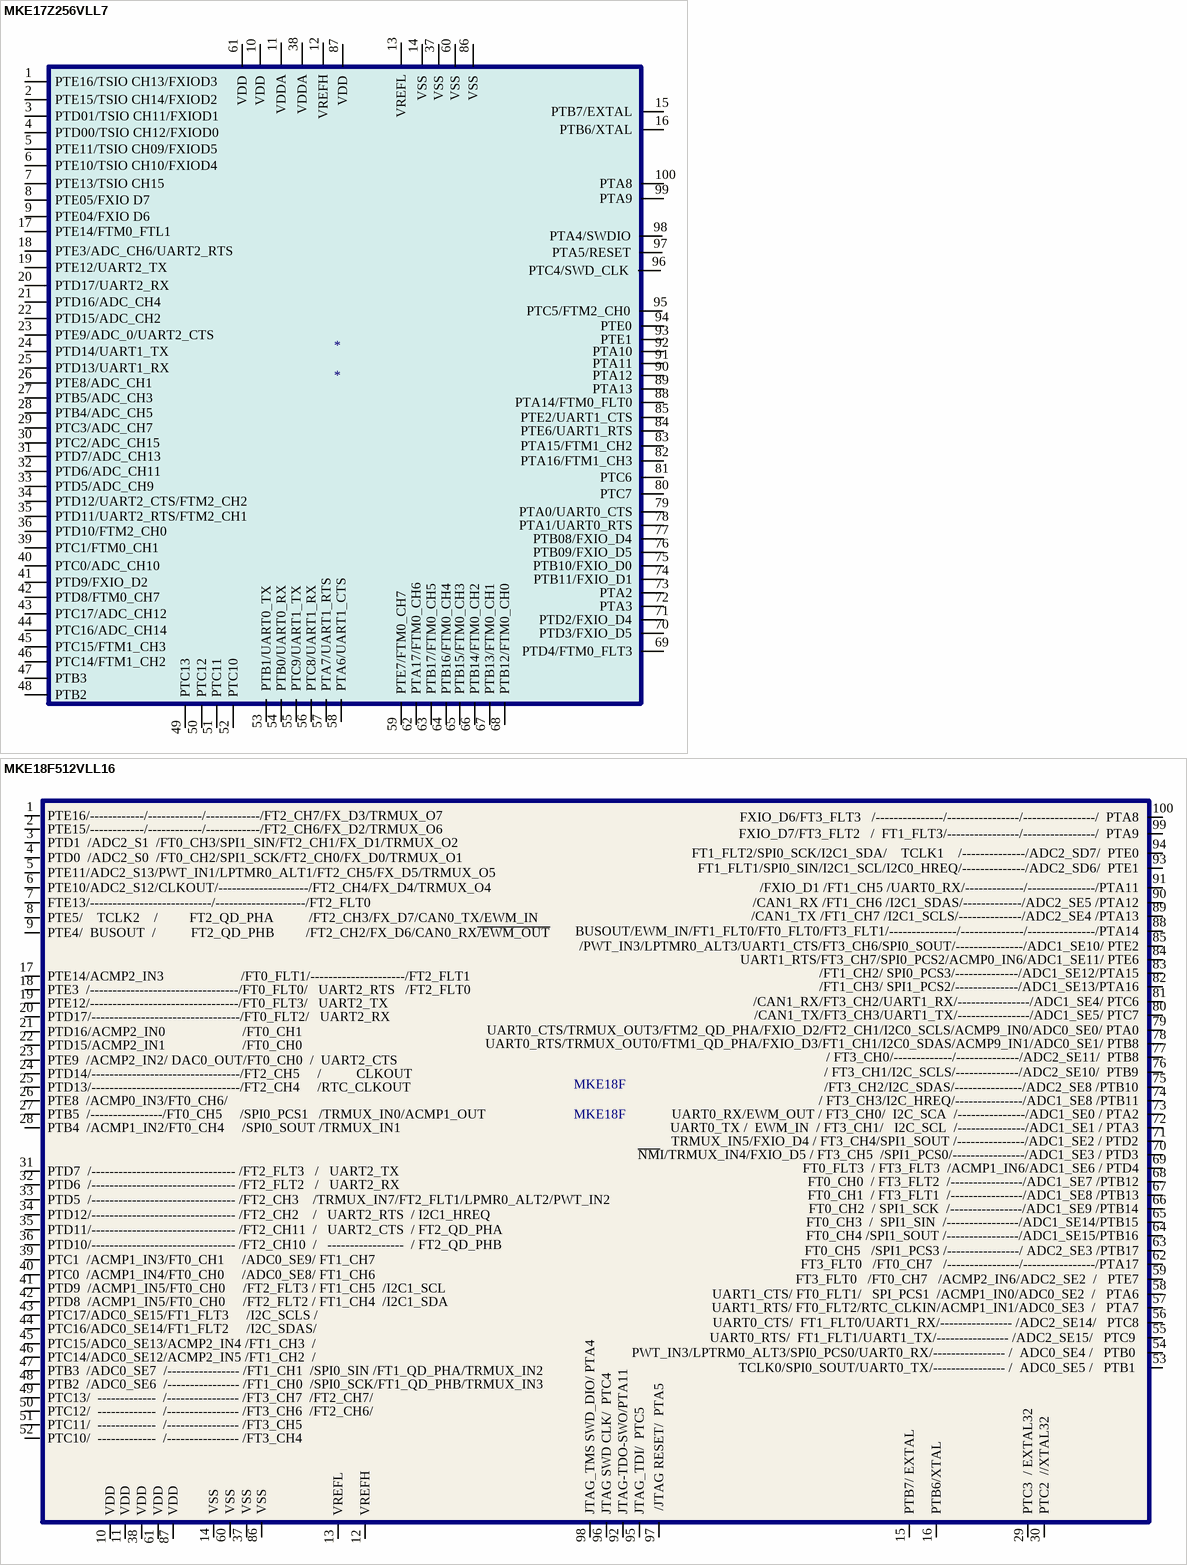
[diagram p9: symbols MKE17Z256VLL7 to MKE18F512VLL16]